# Altium integrated library AD DSP 32-Bit.IntLib: 40 symbols (part 3 of 6)
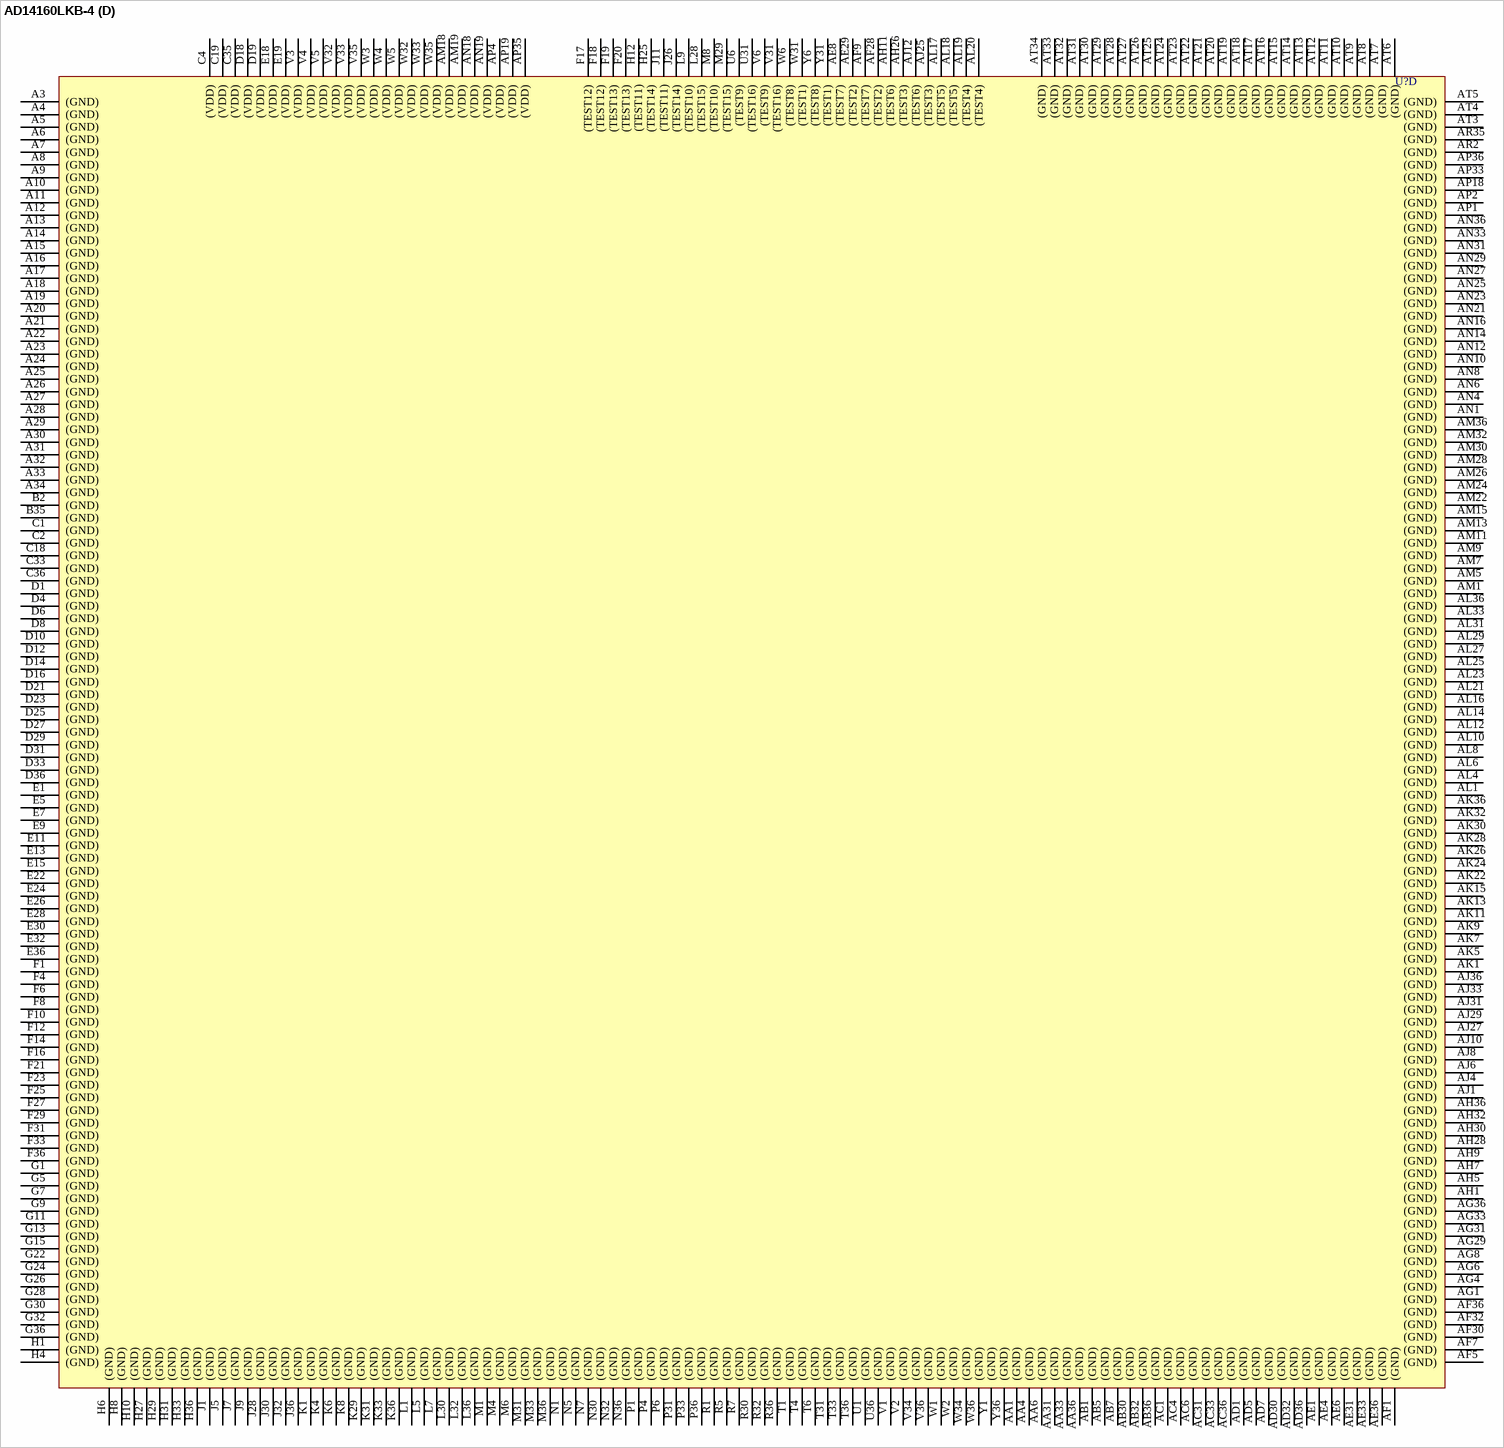
[diagram p44: symbol AD14160LKB-4]

## AD14160LKB-4
designator U?
480-MFLOP, Quad DSP, 3.3V; Note: All pins in parentheses are redundant; these pins are extraneous and only the redundant (GND) and (VDD) should be connected if desired. There are 1284 pins in total.; Published: 24-Aug-2001; LatestRevisionDate: 13-Apr-2006; LatestRevisionNote: IPC-7351 Footprint Added.; DatasheetVersion: 1998; PackageReference: QS-452; Publisher: Altium Limited; PackageDescription: 1285-Ball Ceramic Ball Grid Array 1.27 mm Pitch; ComponentLink1Description: Manufacturer Link; ComponentLink1URL: http://www.analog.com/
footprint QS-452 (BGA, 1285-Leads, Body 46.99x46.99mm, Pitch 1.27mm)
3D model 14160L-QS452 (1285-Ball Ceramic Ball Grid Array 1.27 mm Pitch)
part A pins: A1 INDEX, AA8 ~{HBR} (in), AA9 ~{BR}2 (io), AA10 ~{CPAB} (io), AA11 DATA44 (io), AA12 DATA42 (io), AA13 DATA40 (io), AA24 ADDR8 (io), AA25 ADDR9 (io), AA26 ADDR10 (io), AA27 ADDR11 (io), AA28 FLAGD1 (io), AA29 IRQD1 (in), AB8 ~{HBG} (io), AB9 ~{BR}3 (io), AB11 RFSC1 (io), AB12 RFSC0 (io), AB13 TDOB (out), AB24 ADDR4 (io), AB25 ADDR5 (io), AB26 ADDR6 (io), AB27 ADDR7 (io), AB28 FLAGD2 (io), AB29 IRQD2 (in), AC9 ~{BR}4 (io), AC10 FLAGC0 (io), AC11 RCLKC1 (io), AC12 RCLKC0 (io), AC13 ADRCLK (hiz), AC23 TIMEXPC (out), AC24 ADDR0 (io), AC25 ADDR1 (io), AC26 ADDR2 (io), AC27 ADDR3 (io), AC28 FLAGD3 (io), AD9 ~{BR}5 (io), AD10 FLAGC1 (io), AD11 DRC1 (in), AD12 DRC0 (in), AD13 ~{CPAC} (io), AD14 ~{CSC} (in), AD15 ~{EMU} (out), AD17 TMS (in), AD18 ~{TRST} (in), AD19 RFSD1 (io), AD20 RFSD0 (io), AD21 ~{BMSBCD} (io), AD22 LD1ACK (io), AD23 LD1CLK (io), AD24 LD1DAT0 (io), AD25 LD1DAT1 (io), AD26 LD1DAT2 (io), AD27 LD1DAT3 (io), AD28 TIMEXPD (out), AE9 ~{BR}6 (io), AE10 FLAGC2 (io), AE11 TFSC1 (io), AE12 TFSC0 (io), AE13 LC1ACK (io), AE14 LC1CLK (io), AE15 LC1DAT0 (io), AE16 LC1DAT1 (io), AE17 LC1DAT2 (io), AE18 LC1DAT3 (io), AE19 RCLKD1 (io), AE20 RCLKD0 (io), AE21 ~{WR} (io), AE22 LD2ACK (io), AE23 LD2CLK (io), AE24 LD2DAT0 (io), AE25 LD2DAT1 (io), AE26 LD2DAT2 (io), AE27 LD2DAT3 (io), AF10 FLAGC3 (io), AF11 TCLKC1 (io), AF12 TCLKC0 (io), AF13 LC2ACK (io), AF14 LC2CLK (io), AF15 LC2DAT0 (io), AF16 LC2DAT1 (io), AF17 LC2DAT2 (io), AF18 LC2DAT3 (io), AF19 DRD1 (in), AF20 DRD0 (in), AF21 ~{RD} (io), AF22 LD3ACK (io), AF23 LD3CLK (io), AF24 LD3DAT0 (io), AF25 LD3DAT1 (io), AF26 LD3DAT2 (io), AF27 LD3DAT3 (io), AG11 DTC1 (hiz), AG12 DTC0 (hiz), AG13 IRQC0 (in), AG14 IRQC1 (in), AG15 IRQC2 (in), AG16 IDC0 (in), AG17 IDC1 (in), AG18 IDC2 (in), AG19 TFSD1 (io), AG20 TFSD0 (io), AG21 ~{CSD} (in), AG22 LD4ACK (io), AG23 LD4CLK (io), AG24 LD4DAT0 (io), AG25 LD4DAT1 (io), AG26 LD4DAT2 (io), AG27 LD4DAT3 (io), AH13 LC3ACK (io), AH14 LC3CLK (io), AH15 LC3DAT0 (io), AH16 LC3DAT1 (io), AH17 LC3DAT2 (io), AH18 LC3DAT3 (io), AH19 TCLKD1 (io), AH20 TCLKD0 (io), AH21 IDD0 (in), AH22 IDD1 (in), AH23 IDD2 (in), AH24 EBOOTBCD (in), AH25 TDOC (out), AJ13 LC4ACK (io), AJ14 LC4CLK (io), AJ15 LC4DAT0 (io), AJ16 LC4DAT1 (io), AJ17 LC4DAT2 (io), AJ18 LC4DAT3 (io), AJ19 DTD1 (hiz), AJ20 DTD0 (hiz), AJ21 ~{CPAD} (io), AJ22 TDO (out), AJ23 LBOOTBCD (in), AJ24 TCK (in), G17 LB1DAT2 (io), G18 LB1DAT3 (io), G19 RFSA1 (io), G20 RFSA0 (io), H13 LB1ACK (io), H14 LB1CLK (io), H15 LB1DAT0 (io), H16 LB1DAT1 (io), H17 LB2DAT2 (io), H18 LB2DAT3 (io), H19 RCLKA1 (io), H20 RCLKA0 (io), H21 REDY (out), J12 DATA10 (io), J13 LB2ACK (io), J14 LB2CLK (io), J15 LB2DAT0 (io), J16 LB2DAT1 (io), J19 DRA1 (in), J20 DRA0 (in), J21 ACK (io), J22 PAGE (hiz), K11 DATA21 (io), K12 DATA11 (io), K13 LB3ACK (io), K14 LB3CLK (io), K15 LB3DAT0 (io), K16 LB3DAT1 (io), K17 LB3DAT2 (io), K18 LB3DAT3 (io), K19 TFSA1 (io), K20 TFSA0 (io), K21 ~{CSA} (in), K22 LA1ACK (io), K23 LA1CLK (io), K24 LA1DAT0 (io), K25 LA1DAT1 (io), K26 LA1DAT2 (io), K27 LA1DAT3 (io), L10 DATA30 (io), L11 DATA22 (io), L12 DATA12 (io), L13 LB4ACK (io), L14 LB4CLK (io), L15 LB4DAT0 (io), L16 LB4DAT1 (io), L17 LB4DAT2 (io), L18 LB4DAT3 (io), L19 TCLKA1 (io), L20 TCLKA0 (io), L21 ~{RESET} (in), L22 LA2ACK (io), L23 LA2CLK (io), L24 LA2DAT0 (io), L25 LA2DAT1 (io), L26 LA2DAT2 (io), L27 LA2DAT3 (io), M9 RFSB0 (io), M10 DATA31 (io), M11 DATA23 (io), M12 DATA13 (io), M13 DATA2 (io), M14 DATA0 (io), M15 ~{DMAG}1 (hiz), M16 ~{DMAR}1 (in), M17 ~{DMAR}2 (in), M19 DTA1 (hiz), M20 DTA0 (hiz), M21 ~{CPAA} (io), M22 LA3ACK (io), M23 LA3CLK (io), M24 LA3DAT0 (io), M25 LA3DAT1 (io), M26 LA3DAT2 (io), M27 LA3DAT3 (io), N9 RCLKB0 (io), N10 DATA32 (io), N11 DATA24 (io), N12 DATA14 (io), N13 DATA3 (io), N14 DATA1 (io), N15 ~{DMAG}2 (hiz), N16 ~{SBTS} (in), N22 LA4ACK (io), N23 LA4CLK (io), N24 LA4DAT0 (io), N25 LA4DAT1 (io), N26 LA4DAT2 (io), N27 LA4DAT3 (io), P8 RFSB1 (io), P9 DRB0 (in), P10 DATA33 (io), P11 DATA25 (io), P12 DATA15 (io), P13 DATA4 (io), P16 IDB0 (in), P17 IDB1 (in), P18 IDB2 (in), P28 IDA1 (in), P29 IDA2 (in), R8 RCLKB1 (io), R9 TFSB0 (io), R10 DATA34 (io), R11 DATA26 (io), R12 DATA16 (io), R13 DATA5 (io), R17 IRQB0 (in), R18 IRQB1 (in), R19 IRQB2 (in), R23 RPBA (in), R24 MS0 (io), R25 MS1 (io), R26 MS2 (io), R27 MS3 (io), R28 IDA0 (in), R29 LBOOTA (in), T8 DRB1 (in), T9 TCLKB0 (io), T10 DATA35 (io), T11 DATA27 (io), T12 DATA17 (io), T13 DATA6 (io), T24 ADDR28 (io), T25 ADDR29 (io), T26 ADDR30 (io), T27 ADDR31 (io), T28 IRQA0 (in), T29 EBOOTA (in), U8 TFSB1 (io), U9 DTB0 (hiz), U10 DATA36 (io), U11 CLKIN (in), U12 DATA18 (io), U13 DATA7 (io), U16 TIMEXPB (out), U24 ADDR24 (io), U25 ADDR25 (io), U26 ADDR26 (io), U27 ADDR27 (io), U28 IRQA2 (in), U29 IRQA1 (in), U30 TDOA (out), V7 ~{CSB} (in), V8 TCLKB1 (io), V9 DATA45 (io), V10 DATA37 (io), V11 DATA28 (io), V12 DATA19 (io), V13 DATA8 (io), V14 FLAGB0 (io), V15 FLAGB1 (io), V16 FLAGB2 (io), V17 FLAGB3 (io), V22 ~{BMSA} (io), V24 ADDR20 (io), V25 ADDR21 (io), V26 ADDR22 (io), V27 ADDR23 (io), V28 FLAGA0 (io), V29 FLAGA1 (io), V30 TIMEXPA (out), W8 DTB1 (hiz), W9 DATA46 (io), W10 DATA38 (io), W11 DATA29 (io), W12 DATA20 (io), W13 DATA9 (io), W24 ADDR16 (io), W25 ADDR17 (io), W26 ADDR18 (io), W27 ADDR19 (io), W28 FLAGA3 (io), W29 FLAGA2 (io), W30 TDI (in), Y8 ~{SW} (io), Y9 ~{BR}1 (io), Y10 DATA47 (io), Y11 DATA43 (io), Y12 DATA41 (io), Y13 DATA39 (io), Y24 ADDR12 (io), Y25 ADDR13 (io), Y26 ADDR14 (io), Y27 ADDR15 (io), Y28 FLAGD0 (io), Y29 IRQD0 (in)
part B pins: AA7 GND (power), AA16 GND (power), AA17 GND (power), AA18 GND (power), AA19 GND (power), AA20 GND (power), AA21 VDD (power), AA22 VDD (power), AA23 GND (power), AA30 VDD (power), AB10 GND (power), AB16 GND (power), AB17 GND (power), AB18 GND (power), AB19 GND (power), AB20 VDD (power), AB21 VDD (power), AB22 VDD (power), AB23 VDD (power), AC8 GND (power), AC14 VDD (power), AC15 VDD (power), AC16 VDD (power), AC17 VDD (power), AC18 GND (power), AC19 GND (power), AC20 GND (power), AC21 VDD (power), AC22 VDD (power), AC29 VDD (power), AD8 VDD (power), AD16 GND (power), AD29 GND (power), AE28 VDD (power), AG10 GND (power), AH12 VDD (power), AK16 GND (power), AK17 VDD (power), AK18 GND (power), AK19 VDD (power), AK20 VDD (power), AK21 GND (power), G16 GND (power), G21 VDD (power), H22 VDD (power), H23 GND (power), H24 VDD (power), J17 GND (power), J18 VDD (power), J23 GND (power), J24 VDD (power), J25 GND (power), K10 GND (power), M18 VDD (power), M28 VDD (power), N8 VDD (power), N28 GND (power), N29 VDD (power), P14 GND (power), P15 GND (power), P22 GND (power), P23 GND (power), P24 GND (power), P25 GND (power), P26 GND (power), P27 GND (power), R14 GND (power), R15 GND (power), R16 GND (power), R20 GND (power), R21 GND (power), R22 GND (power), T7 VDD (power), T14 VDD (power), T15 GND (power), T16 GND (power), T17 GND (power), T18 GND (power), T19 GND (power), T30 GND (power), U7 GND (power), U14 VDD (power), U15 GND (power), U17 VDD (power), U18 VDD (power), U19 VDD (power), U20 VDD (power), U21 VDD (power), U22 GND (power), U23 GND (power), V18 VDD (power), V19 VDD (power), V20 GND (power), V21 VDD (power), V23 GND (power), W7 GND (power), W16 GND (power), W17 VDD (power), W18 VDD (power), W19 VDD (power), W20 GND (power), W21 VDD (power), W22 VDD (power), W23 GND (power), Y7 VDD (power), Y16 GND (power), Y17 GND (power), Y18 VDD (power), Y19 VDD (power), Y20 VDD (power), Y21 VDD (power), Y22 GND (power), Y23 GND (power), Y30 GND (power)
part C pins: AA2 NC, AA3 NC, AA5 NC, AA14 NC, AA15 NC, AA32 NC, AA34 NC, AA35 NC, AB2 NC, AB3 NC, AB4 NC, AB6 NC, AB14 NC, AB15 NC, AB31 NC, AB33 NC, AB34 NC, AB35 NC, AC2 NC, AC3 NC, AC5 NC, AC7 NC, AC30 NC, AC32 NC, AC34 NC, AC35 NC, AD2 NC, AD3 NC, AD4 NC, AD6 NC, AD31 NC, AD33 NC, AD34 NC, AD35 NC, AE2 NC, AE3 NC, AE5 NC, AE7 NC, AE30 NC, AE32 NC, AE34 NC, AE35 NC, AF2 NC, AF3 NC, AF4 NC, AF6 NC, AF8 NC, AF29 NC, AF31 NC, AF33 NC, AF34 NC, AF35 NC, AG2 NC, AG3 NC, AG5 NC, AG7 NC, AG9 NC, AG28 NC, AG30 NC, AG32 NC, AG34 NC, AG35 NC, AH2 NC, AH3 NC, AH4 NC, AH6 NC, AH8 NC, AH10 NC, AH27 NC, AH29 NC, AH31 NC, AH33 NC, AH34 NC, AH35 NC, AJ2 NC, AJ3 NC, AJ5 NC, AJ7 NC, AJ9 NC, AJ11 NC, AJ26 NC, AJ28 NC, AJ30 NC, AJ32 NC, AJ34 NC, AJ35 NC, AK2 NC, AK3 NC, AK4 NC, AK6 NC, AK8 NC, AK10 NC, AK12 NC, AK14 NC, AK23 NC, AK25 NC, AK27 NC, AK29 NC, AK31 NC, AK33 NC, AK34 NC, AK35 NC, AL2 NC, AL3 NC, AL5 NC, AL7 NC, AL9 NC, AL11 NC, AL13 NC, AL15 NC, AL22 NC, AL24 NC, AL26 NC, AL28 NC, AL30 NC, AL32 NC, AL34 NC, AL35 NC, AM2 NC, AM3 NC, AM4 NC, AM6 NC, AM8 NC, AM10 NC, AM12 NC, AM14 NC, AM16 NC, AM17 NC, AM20 NC, AM21 NC, AM23 NC, AM25 NC, AM27 NC, AM29 NC, AM31 NC, AM33 NC, AM34 NC, AM35 NC, AN2 NC, AN3 NC, AN5 NC, AN7 NC, AN9 NC, AN11 NC, AN13 NC, AN15 NC, AN17 NC, AN20 NC, AN22 NC, AN24 NC, AN26 NC, AN28 NC, AN30 NC, AN32 NC, AN34 NC, AN35 NC, AP3 NC, AP5 NC, AP6 NC, AP7 NC, AP8 NC, AP9 NC, AP10 NC, AP11 NC, AP12 NC, AP13 NC, AP14 NC, AP15 NC, AP16 NC, AP17 NC, AP20 NC, AP21 NC, AP22 NC, AP23 NC, AP24 NC, AP25 NC, AP26 NC, AP27 NC, AP28 NC, AP29 NC, AP30 NC, AP31 NC, AP32 NC, AP34 NC, AR3 NC, AR4 NC, AR5 NC, AR6 NC, AR7 NC, AR8 NC, AR9 NC, AR10 NC, AR11 NC, AR12 NC, AR13 NC, AR14 NC, AR15 NC, AR16 NC, AR17 NC, AR18 NC, AR19 NC, AR20 NC, AR21 NC, AR22 NC, AR23 NC, AR24 NC, AR25 NC, AR26 NC, AR27 NC, AR28 NC, AR29 NC, AR30 NC, AR31 NC, AR32 NC, AR33 NC, AR34 NC, B3 NC, B4 NC, B5 NC, B6 NC, B7 NC, B8 NC, B9 NC, B10 NC, B11 NC, B12 NC, B13 NC, B14 NC, B15 NC, B16 NC, B17 NC, B18 NC, B19 NC, B20 NC, B21 NC, B22 NC, B23 NC, B24 NC, B25 NC, B26 NC, B27 NC, B28 NC, B29 NC, B30 NC, B31 NC, B32 NC, B33 NC, B34 NC, C3 NC, C5 NC, C6 NC, C7 NC, C8 NC, C9 NC, C10 NC, C11 NC, C12 NC, C13 NC, C14 NC, C15 NC, C16 NC, C17 NC, C20 NC, C21 NC, C22 NC, C23 NC, C24 NC, C25 NC, C26 NC, C27 NC, C28 NC, C29 NC, C30 NC, C31 NC, C32 NC, C34 NC, D2 NC, D3 NC, D5 NC, D7 NC, D9 NC, D11 NC, D13 NC, D15 NC, D17 NC, D20 NC, D22 NC, D24 NC, D26 NC, D28 NC, D30 NC, D32 NC, D34 NC, D35 NC, E2 NC, E3 NC, E4 NC, E6 NC, E8 NC, E10 NC, E12 NC, E14 NC, E16 NC, E17 NC, E20 NC, E21 NC, E23 NC, E25 NC, E27 NC, E29 NC, E31 NC, E33 NC, E34 NC, E35 NC, F2 NC, F3 NC, F5 NC, F7 NC, F9 NC, F11 NC, F13 NC, F15 NC, F22 NC, F24 NC, F26 NC, F28 NC, F30 NC, F32 NC, F34 NC, F35 NC, G2 NC, G3 NC, G4 NC, G6 NC, G8 NC, G10 NC, G12 NC, G14 NC, G23 NC, G25 NC, G27 NC, G29 NC, G31 NC, G33 NC, G34 NC, G35 NC, H2 NC, H3 NC, H5 NC, H7 NC, H9 NC, H11 NC, H26 NC, H28 NC, H30 NC, H32 NC, H34 NC, H35 NC, J2 NC, J3 NC, J4 NC, J6 NC, J8 NC, J10 NC, J27 NC, J29 NC, J31 NC, J33 NC, J34 NC, J35 NC, K2 NC, K3 NC, K5 NC, K7 NC, K9 NC, K28 NC, K30 NC, K32 NC, K34 NC, K35 NC, L2 NC, L3 NC, L4 NC, L6 NC, L8 NC, L29 NC, L31 NC, L33 NC, L34 NC, L35 NC, M2 NC, M3 NC, M5 NC, M7 NC, M30 NC, M32 NC, M34 NC, M35 NC, N2 NC, N3 NC, N4 NC, N6 NC, N17 NC, N18 NC, N19 NC, N20 NC, N21 NC, N31 NC, N33 NC, N34 NC, N35 NC, P2 NC, P3 NC, P5 NC, P7 NC, P19 NC, P20 NC, P21 NC, P30 NC, P32 NC, P34 NC, P35 NC, R2 NC, R3 NC, R4 NC, R6 NC, R31 NC, R33 NC, R34 NC, R35 NC, T2 NC, T3 NC, T5 NC, T20 NC, T21 NC, T22 NC, T23 NC, T32 NC, T34 NC, T35 NC, U2 NC, U3 NC, U4 NC, U5 NC, U32 NC, U33 NC, U34 NC, U35 NC, W14 NC, W15 NC, Y2 NC, Y3 NC, Y4 NC, Y5 NC, Y14 NC, Y15 NC, Y32 NC, Y33 NC, Y34 NC, Y35 NC
part D pins: A3 (GND) (power), A4 (GND) (power), A5 (GND) (power), A6 (GND) (power), A7 (GND) (power), A8 (GND) (power), A9 (GND) (power), A10 (GND) (power), A11 (GND) (power), A12 (GND) (power), A13 (GND) (power), A14 (GND) (power), A15 (GND) (power), A16 (GND) (power), A17 (GND) (power), A18 (GND) (power), A19 (GND) (power), A20 (GND) (power), A21 (GND) (power), A22 (GND) (power), A23 (GND) (power), A24 (GND) (power), A25 (GND) (power), A26 (GND) (power), A27 (GND) (power), A28 (GND) (power), A29 (GND) (power), A30 (GND) (power), A31 (GND) (power), A32 (GND) (power), A33 (GND) (power), A34 (GND) (power), AA1 (GND) (power), AA4 (GND) (power), AA6 (GND) (power), AA31 (GND) (power), AA33 (GND) (power), AA36 (GND) (power), AB1 (GND) (power), AB5 (GND) (power), AB7 (GND) (power), AB30 (GND) (power), AB32 (GND) (power), AB36 (GND) (power), AC1 (GND) (power), AC4 (GND) (power), AC6 (GND) (power), AC31 (GND) (power), AC33 (GND) (power), AC36 (GND) (power), AD1 (GND) (power), AD5 (GND) (power), AD7 (GND) (power), AD30 (GND) (power), AD32 (GND) (power), AD36 (GND) (power), AE1 (GND) (power), AE4 (GND) (power), AE6 (GND) (power), AE8 (TEST7), AE29 (TEST2), AE31 (GND) (power), AE33 (GND) (power), AE36 (GND) (power), AF1 (GND) (power), AF5 (GND) (power), AF7 (GND) (power), AF9 (TEST7), AF28 (TEST2), AF30 (GND) (power), AF32 (GND) (power), AF36 (GND) (power), AG1 (GND) (power), AG4 (GND) (power), AG6 (GND) (power), AG8 (GND) (power), AG29 (GND) (power), AG31 (GND) (power), AG33 (GND) (power), AG36 (GND) (power), AH1 (GND) (power), AH5 (GND) (power), AH7 (GND) (power), AH9 (GND) (power), AH11 (TEST6), AH26 (TEST3), AH28 (GND) (power), AH30 (GND) (power), AH32 (GND) (power), AH36 (GND) (power), AJ1 (GND) (power), AJ4 (GND) (power), AJ6 (GND) (power), AJ8 (GND) (power), AJ10 (GND) (power), AJ12 (TEST6), AJ25 (TEST3), AJ27 (GND) (power), AJ29 (GND) (power), AJ31 (GND) (power), AJ33 (GND) (power), AJ36 (GND) (power), AK1 (GND) (power), AK5 (GND) (power), AK7 (GND) (power), AK9 (GND) (power), AK11 (GND) (power), AK13 (GND) (power), AK15 (GND) (power), AK22 (GND) (power), AK24 (GND) (power), AK26 (GND) (power), AK28 (GND) (power), AK30 (GND) (power), AK32 (GND) (power), AK36 (GND) (power), AL1 (GND) (power), AL4 (GND) (power), AL6 (GND) (power), AL8 (GND) (power), AL10 (GND) (power), AL12 (GND) (power), AL14 (GND) (power), AL16 (GND) (power), AL17 (TEST5), AL18 (TEST5), AL19 (TEST4), AL20 (TEST4), AL21 (GND) (power), AL23 (GND) (power), AL25 (GND) (power), AL27 (GND) (power), AL29 (GND) (power), AL31 (GND) (power), AL33 (GND) (power), AL36 (GND) (power), AM1 (GND) (power), AM5 (GND) (power), AM7 (GND) (power), AM9 (GND) (power), AM11 (GND) (power), AM13 (GND) (power), AM15 (GND) (power), AM18 (VDD) (power), AM19 (VDD) (power), AM22 (GND) (power), AM24 (GND) (power), AM26 (GND) (power), AM28 (GND) (power), AM30 (GND) (power), AM32 (GND) (power), AM36 (GND) (power), AN1 (GND) (power), AN4 (GND) (power), AN6 (GND) (power), AN8 (GND) (power), AN10 (GND) (power), AN12 (GND) (power), AN14 (GND) (power), AN16 (GND) (power), AN18 (VDD) (power), AN19 (VDD) (power), AN21 (GND) (power), AN23 (GND) (power), AN25 (GND) (power), AN27 (GND) (power), AN29 (GND) (power), AN31 (GND) (power), AN33 (GND) (power), AN36 (GND) (power), AP1 (GND) (power), AP2 (GND) (power), AP4 (VDD) (power), AP18 (GND) (power), AP19 (VDD) (power), AP33 (GND) (power), AP35 (VDD) (power), AP36 (GND) (power), AR2 (GND) (power), AR35 (GND) (power), AT3 (GND) (power), AT4 (GND) (power), AT5 (GND) (power), AT6 (GND) (power), AT7 (GND) (power), AT8 (GND) (power), AT9 (GND) (power), AT10 (GND) (power), AT11 (GND) (power), AT12 (GND) (power), AT13 (GND) (power), AT14 (GND) (power), AT15 (GND) (power), AT16 (GND) (power), AT17 (GND) (power), AT18 (GND) (power), AT19 (GND) (power), AT20 (GND) (power), AT21 (GND) (power), AT22 (GND) (power), AT23 (GND) (power), AT24 (GND) (power), AT25 (GND) (power), AT26 (GND) (power), AT27 (GND) (power), AT28 (GND) (power), AT29 (GND) (power), AT30 (GND) (power), AT31 (GND) (power), AT32 (GND) (power), AT33 (GND) (power), AT34 (GND) (power), B2 (GND) (power), B35 (GND) (power), C1 (GND) (power), C2 (GND) (power), C4 (VDD) (power), C18 (GND) (power), C19 (VDD) (power), C33 (GND) (power), C35 (VDD) (power), C36 (GND) (power), D1 (GND) (power), D4 (GND) (power), D6 (GND) (power), D8 (GND) (power), D10 (GND) (power), D12 (GND) (power), D14 (GND) (power), D16 (GND) (power), D18 (VDD) (power), D19 (VDD) (power), D21 (GND) (power), D23 (GND) (power), D25 (GND) (power), D27 (GND) (power), D29 (GND) (power), D31 (GND) (power), D33 (GND) (power), D36 (GND) (power), E1 (GND) (power), E5 (GND) (power), E7 (GND) (power), E9 (GND) (power), E11 (GND) (power), E13 (GND) (power), E15 (GND) (power), E18 (VDD) (power), E19 (VDD) (power), E22 (GND) (power), E24 (GND) (power), E26 (GND) (power), E28 (GND) (power), E30 (GND) (power), E32 (GND) (power), E36 (GND) (power), F1 (GND) (power), F4 (GND) (power), F6 (GND) (power), F8 (GND) (power), F10 (GND) (power), F12 (GND) (power), F14 (GND) (power), F16 (GND) (power), F17 (TEST12), F18 (TEST12), F19 (TEST13), F20 (TEST13), F21 (GND) (power), F23 (GND) (power), F25 (GND) (power), F27 (GND) (power), F29 (GND) (power), F31 (GND) (power), F33 (GND) (power), F36 (GND) (power), G1 (GND) (power), G5 (GND) (power), G7 (GND) (power), G9 (GND) (power), G11 (GND) (power), G13 (GND) (power), G15 (GND) (power), G22 (GND) (power), G24 (GND) (power), G26 (GND) (power), G28 (GND) (power), G30 (GND) (power), G32 (GND) (power), G36 (GND) (power), H1 (GND) (power), H4 (GND) (power), H6 (GND) (power), H8 (GND) (power), H10 (GND) (power), H12 (TEST11), H25 (TEST14), H27 (GND) (power), H29 (GND) (power), H31 (GND) (power), H33 (GND) (power), H36 (GND) (power), J1 (GND) (power), J5 (GND) (power), J7 (GND) (power), J9 (GND) (power), J11 (TEST11), J26 (TEST14), J28 (GND) (power), J30 (GND) (power), J32 (GND) (power), J36 (GND) (power), K1 (GND) (power), K4 (GND) (power), K6 (GND) (power), K8 (GND) (power), K29 (GND) (power), K31 (GND) (power), K33 (GND) (power), K36 (GND) (power), L1 (GND) (power), L5 (GND) (power), L7 (GND) (power), L9 (TEST10), L28 (TEST15), L30 (GND) (power), L32 (GND) (power), L36 (GND) (power), M1 (GND) (power), M4 (GND) (power), M6 (GND) (power), M8 (TEST10), M29 (TEST15), M31 (GND) (power), M33 (GND) (power), M36 (GND) (power), N1 (GND) (power), N5 (GND) (power), N7 (GND) (power), N30 (GND) (power), N32 (GND) (power), N36 (GND) (power), P1 (GND) (power), P4 (GND) (power), P6 (GND) (power), P31 (GND) (power), P33 (GND) (power), P36 (GND) (power), R1 (GND) (power), R5 (GND) (power), R7 (GND) (power), R30 (GND) (power), R32 (GND) (power), R36 (GND) (power), T1 (GND) (power), T4 (GND) (power), T6 (GND) (power), T31 (GND) (power), T33 (GND) (power), T36 (GND) (power), U1 (GND) (power), U6 (TEST9), U31 (TEST16), U36 (GND) (power), V1 (GND) (power), V2 (GND) (power), V3 (VDD) (power), V4 (VDD) (power), V5 (VDD) (power), V6 (TEST9), V31 (TEST16), V32 (VDD) (power), V33 (VDD) (power), V34 (GND) (power), V35 (VDD) (power), V36 (GND) (power), W1 (GND) (power), W2 (GND) (power), W3 (VDD) (power), W4 (VDD) (power), W5 (VDD) (power), W6 (TEST8), W31 (TEST1), W32 (VDD) (power), W33 (VDD) (power), W34 (GND) (power), W35 (VDD) (power), W36 (GND) (power), Y1 (GND) (power), Y6 (TEST8), Y31 (TEST1), Y36 (GND) (power)

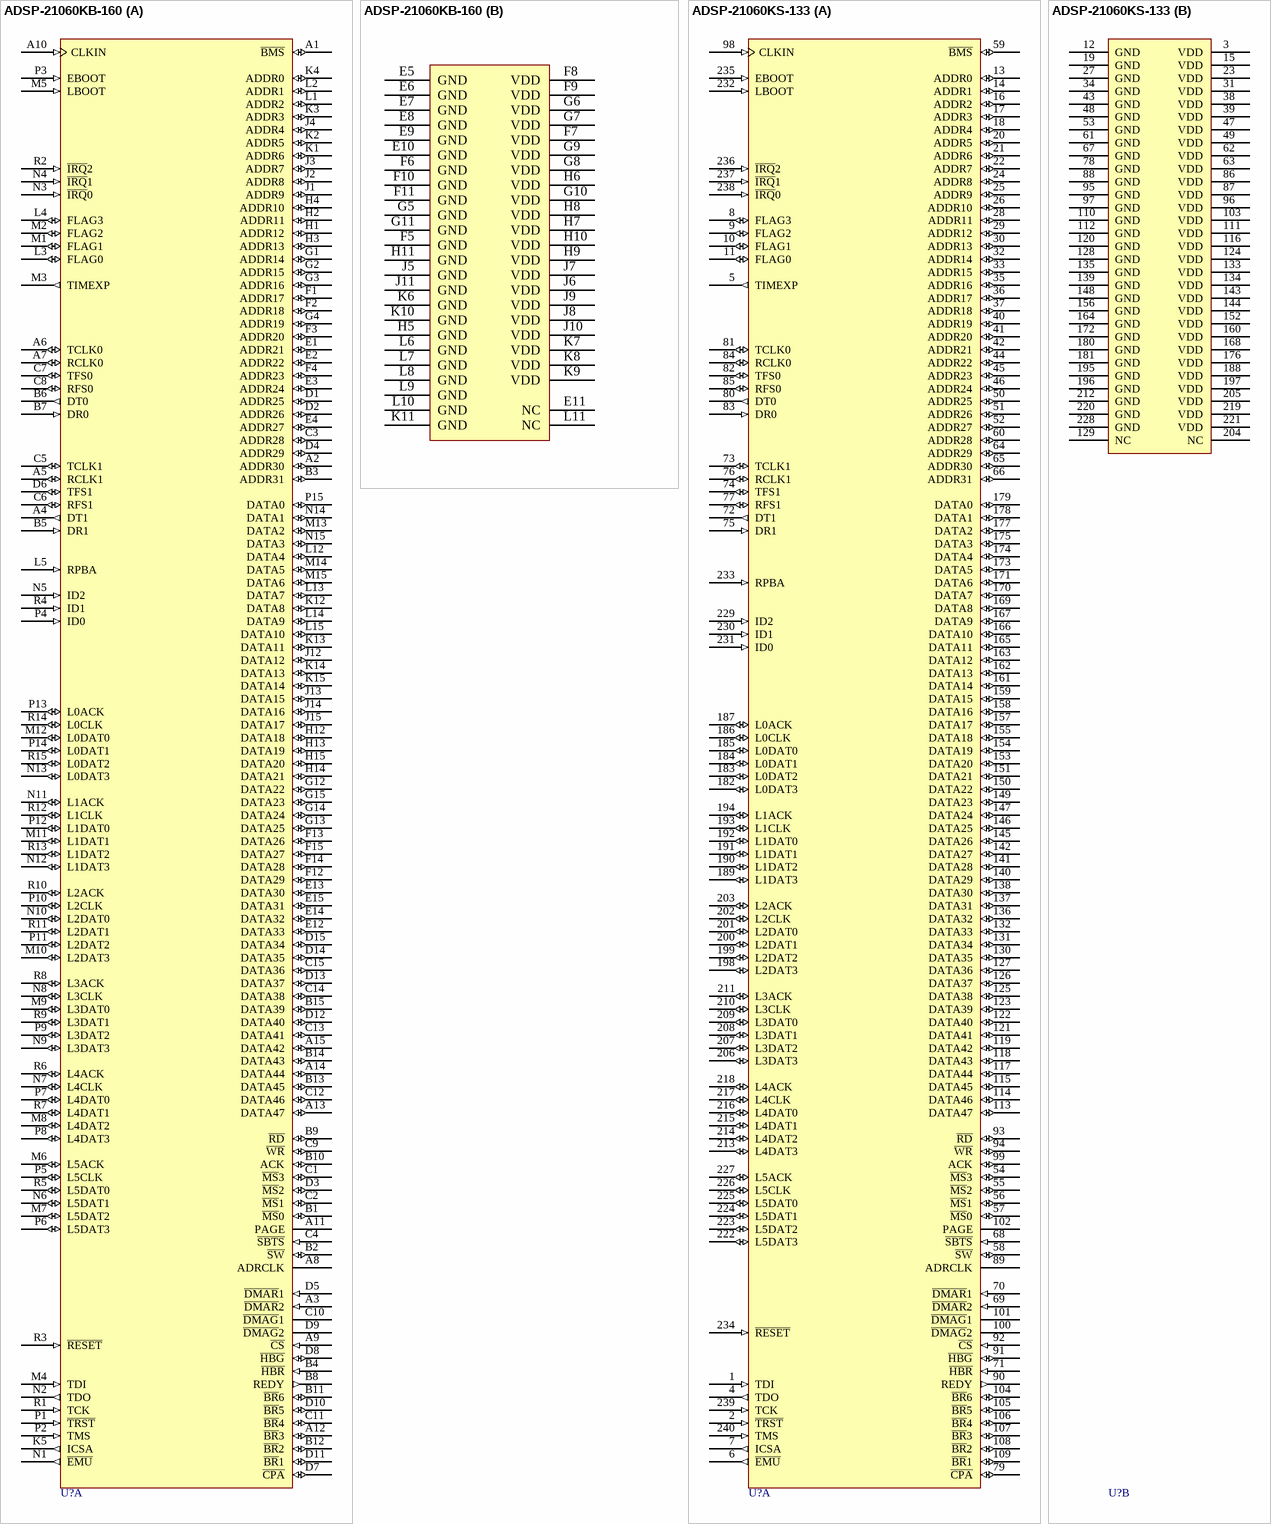
[diagram p24: symbols ADSP-21060KB-160 to ADSP-21060KS-133]

## ADSP-21060KB-160
designator U?
SHARC, 120 MFLOPS, 5V, DSP Microcomputer Floating Point; Published: 24-Aug-2001; LatestRevisionDate: 13-Apr-2006; LatestRevisionNote: IPC-7351 Footprint Added.; DatasheetVersion: 2000; PackageVersion: revB; PackageReference: B225; Publisher: Altium Limited; PackageDescription: 225-Ball Ball Grid Array 1.27 mm Pitch; ComponentLink1Description: Manufacturer Link; ComponentLink1URL: http://www.analog.com/
footprint B225 (BGA, 225-Leads, Body 23x23mm, Pitch 1.27mm)
3D model 21060-B225 (225-Ball Ball Grid Array 1.27 mm Pitch)
part A pins: A1 ~{BMS} (io), A2 ADDR30 (io), A3 ~{DMAR}2 (in), A4 DT1 (out), A5 RCLK1 (io), A6 TCLK0 (io), A7 RCLK0 (io), A8 ADRCLK (hiz), A9 ~{CS} (in), A10 CLKIN (in), A11 PAGE (hiz), A12 ~{BR}3 (io), A13 DATA47 (io), A14 DATA44 (io), A15 DATA42 (io), B1 ~{MS}0 (io), B2 ~{SW} (io), B3 ADDR31 (io), B4 ~{HBR} (in), B5 DR1 (in), B6 DT0 (out), B7 DR0 (in), B8 REDY (out), B9 ~{RD} (io), B10 ACK (io), B11 ~{BR}6 (io), B12 ~{BR}2 (io), B13 DATA45 (io), B14 DATA43 (io), B15 DATA39 (io), C1 ~{MS}3 (io), C2 ~{MS}1 (io), C3 ADDR28 (io), C4 ~{SBTS} (in), C5 TCLK1 (io), C6 RFS1 (io), C7 TFS0 (io), C8 RFS0 (io), C9 ~{WR} (io), C10 ~{DMAG}1 (hiz), C11 ~{BR}4 (io), C12 DATA46 (io), C13 DATA41 (io), C14 DATA38 (io), C15 DATA36 (io), D1 ADDR25 (io), D2 ADDR26 (io), D3 ~{MS}2 (io), D4 ADDR29 (io), D5 ~{DMAR}1 (in), D6 TFS1 (io), D7 ~{CPA} (io), D8 ~{HBG} (io), D9 ~{DMAG}2 (hiz), D10 ~{BR}5 (io), D11 ~{BR}1 (io), D12 DATA40 (io), D13 DATA37 (io), D14 DATA35 (io), D15 DATA34 (io), E1 ADDR21 (io), E2 ADDR22 (io), E3 ADDR24 (io), E4 ADDR27 (io), E12 DATA33 (io), E13 DATA30 (io), E14 DATA32 (io), E15 DATA31 (io), F1 ADDR17 (io), F2 ADDR18 (io), F3 ADDR20 (io), F4 ADDR23 (io), F12 DATA29 (io), F13 DATA26 (io), F14 DATA28 (io), F15 DATA27 (io), G1 ADDR14 (io), G2 ADDR15 (io), G3 ADDR16 (io), G4 ADDR19 (io), G12 DATA22 (io), G13 DATA25 (io), G14 DATA24 (io), G15 DATA23 (io), H1 ADDR12 (io), H2 ADDR11 (io), H3 ADDR13 (io), H4 ADDR10 (io), H12 DATA18 (io), H13 DATA19 (io), H14 DATA21 (io), H15 DATA20 (io), J1 ADDR9 (io), J2 ADDR8 (io), J3 ADDR7 (io), J4 ADDR4 (io), J12 DATA12 (io), J13 DATA15 (io), J14 DATA16 (io), J15 DATA17 (io), K1 ADDR6 (io), K2 ADDR5 (io), K3 ADDR3 (io), K4 ADDR0 (io), K5 ICSA (out), K12 DATA8 (io), K13 DATA11 (io), K14 DATA13 (io), K15 DATA14 (io), L1 ADDR2 (io), L2 ADDR1 (io), L3 FLAG0 (io), L4 FLAG3 (io), L5 RPBA (in), L12 DATA4 (io), L13 DATA7 (io), L14 DATA9 (io), L15 DATA10 (io), M1 FLAG1 (io), M2 FLAG2 (io), M3 TIMEXP (out), M4 TDI (in), M5 LBOOT (in), M6 L5ACK (io), M7 L5DAT2 (io), M8 L4DAT2 (io), M9 L3DAT0 (io), M10 L2DAT3 (io), M11 L1DAT1 (io), M12 L0DAT0 (io), M13 DATA2 (io), M14 DATA5 (io), M15 DATA6 (io), N1 ~{EMU} (out), N2 TDO (out), N3 ~{IRQ}0 (in), N4 ~{IRQ}1 (in), N5 ID2 (in), N6 L5DAT1 (io), N7 L4CLK (io), N8 L3CLK (io), N9 L3DAT3 (io), N10 L2DAT0 (io), N11 L1ACK (io), N12 L1DAT3 (io), N13 L0DAT3 (io), N14 DATA1 (io), N15 DATA3 (io), P1 ~{TRST} (in), P2 TMS (in), P3 EBOOT (in), P4 ID0 (in), P5 L5CLK (io), P6 L5DAT3 (io), P7 L4DAT0 (io), P8 L4DAT3 (io), P9 L3DAT2 (io), P10 L2CLK (io), P11 L2DAT2 (io), P12 L1DAT0 (io), P13 L0ACK (io), P14 L0DAT1 (io), P15 DATA0 (io), R1 TCK (in), R2 ~{IRQ}2 (in), R3 ~{RESET} (in), R4 ID1 (in), R5 L5DAT0 (io), R6 L4ACK (io), R7 L4DAT1 (io), R8 L3ACK (io), R9 L3DAT1 (io), R10 L2ACK (io), R11 L2DAT1 (io), R12 L1CLK (io), R13 L1DAT2 (io), R14 L0CLK (io), R15 L0DAT2 (io)
part B pins: E5 GND (power), E6 GND (power), E7 GND (power), E8 GND (power), E9 GND (power), E10 GND (power), E11 NC, F5 GND (power), F6 GND (power), F7 VDD (power), F8 VDD (power), F9 VDD (power), F10 GND (power), F11 GND (power), G5 GND (power), G6 VDD (power), G7 VDD (power), G8 VDD (power), G9 VDD (power), G10 VDD (power), G11 GND (power), H5 GND (power), H6 VDD (power), H7 VDD (power), H8 VDD (power), H9 VDD (power), H10 VDD (power), H11 GND (power), J5 GND (power), J6 VDD (power), J7 VDD (power), J8 VDD (power), J9 VDD (power), J10 VDD (power), J11 GND (power), K6 GND (power), K7 VDD (power), K8 VDD (power), K9 VDD (power), K10 GND (power), K11 GND (power), L6 GND (power), L7 GND (power), L8 GND (power), L9 GND (power), L10 GND (power), L11 NC

## ADSP-21060KS-133
designator U?
SHARC, 120 MFLOPS, 5V, DSP Microcomputer Floating Point; PackageFeature: Thermally Enhanced MQFP includes heat slug on its top surface; Published: 24-Aug-2001; LatestRevisionDate: 13-Apr-2006; LatestRevisionNote: IPC-7351 Footprint Added.; DatasheetVersion: 2000; PackageVersion: 2000; PackageReference: MQFP240-5V; Publisher: Altium Limited; PackageDescription: 240-Pin Shrink Quad Flat Pack 0.5 mm Pitch; ComponentLink1Description: Manufacturer Link; ComponentLink1URL: http://www.analog.com/
footprint MQFP240-5V_N (Shrink QFP, 240-Leads, Body 32x32mm, Pitch 0.5mm, IPC Medium Density)
footprint MQFP240-5V_L (Shrink QFP, 240-Leads, Body 32x32mm, Pitch 0.5mm, IPC High Density)
footprint MQFP240-5V_M (Shrink QFP, 240-Leads, Body 32x32mm, Pitch 0.5mm, IPC Low Density)
3D model 21060-MQFP240 (240-Pin Shrink Quad Flat Pack 0.5 mm Pitch)
part A pins: 1 TDI (in), 2 ~{TRST} (in), 4 TDO (out), 5 TIMEXP (out), 6 ~{EMU} (out), 7 ICSA (out), 8 FLAG3 (io), 9 FLAG2 (io), 10 FLAG1 (io), 11 FLAG0 (io), 13 ADDR0 (io), 14 ADDR1 (io), 16 ADDR2 (io), 17 ADDR3 (io), 18 ADDR4 (io), 20 ADDR5 (io), 21 ADDR6 (io), 22 ADDR7 (io), 24 ADDR8 (io), 25 ADDR9 (io), 26 ADDR10 (io), 28 ADDR11 (io), 29 ADDR12 (io), 30 ADDR13 (io), 32 ADDR14 (io), 33 ADDR15 (io), 35 ADDR16 (io), 36 ADDR17 (io), 37 ADDR18 (io), 40 ADDR19 (io), 41 ADDR20 (io), 42 ADDR21 (io), 44 ADDR22 (io), 45 ADDR23 (io), 46 ADDR24 (io), 50 ADDR25 (io), 51 ADDR26 (io), 52 ADDR27 (io), 54 ~{MS}3 (io), 55 ~{MS}2 (io), 56 ~{MS}1 (io), 57 ~{MS}0 (io), 58 ~{SW} (io), 59 ~{BMS} (io), 60 ADDR28 (io), 64 ADDR29 (io), 65 ADDR30 (io), 66 ADDR31 (io), 68 ~{SBTS} (in), 69 ~{DMAR}2 (in), 70 ~{DMAR}1 (in), 71 ~{HBR} (in), 72 DT1 (out), 73 TCLK1 (io), 74 TFS1 (io), 75 DR1 (in), 76 RCLK1 (io), 77 RFS1 (io), 79 ~{CPA} (io), 80 DT0 (out), 81 TCLK0 (io), 82 TFS0 (io), 83 DR0 (in), 84 RCLK0 (io), 85 RFS0 (io), 89 ADRCLK (hiz), 90 REDY (out), 91 ~{HBG} (io), 92 ~{CS} (in), 93 ~{RD} (io), 94 ~{WR} (io), 98 CLKIN (in), 99 ACK (io), 100 ~{DMAG}2 (hiz), 101 ~{DMAG}1 (hiz), 102 PAGE (hiz), 104 ~{BR}6 (io), 105 ~{BR}5 (io), 106 ~{BR}4 (io), 107 ~{BR}3 (io), 108 ~{BR}2 (io), 109 ~{BR}1 (io), 113 DATA47 (io), 114 DATA46 (io), 115 DATA45 (io), 117 DATA44 (io), 118 DATA43 (io), 119 DATA42 (io), 121 DATA41 (io), 122 DATA40 (io), 123 DATA39 (io), 125 DATA38 (io), 126 DATA37 (io), 127 DATA36 (io), 130 DATA35 (io), 131 DATA34 (io), 132 DATA33 (io), 136 DATA32 (io), 137 DATA31 (io), 138 DATA30 (io), 140 DATA29 (io), 141 DATA28 (io), 142 DATA27 (io), 145 DATA26 (io), 146 DATA25 (io), 147 DATA24 (io), 149 DATA23 (io), 150 DATA22 (io), 151 DATA21 (io), 153 DATA20 (io), 154 DATA19 (io), 155 DATA18 (io), 157 DATA17 (io), 158 DATA16 (io), 159 DATA15 (io), 161 DATA14 (io), 162 DATA13 (io), 163 DATA12 (io), 165 DATA11 (io), 166 DATA10 (io), 167 DATA9 (io), 169 DATA8 (io), 170 DATA7 (io), 171 DATA6 (io), 173 DATA5 (io), 174 DATA4 (io), 175 DATA3 (io), 177 DATA2 (io), 178 DATA1 (io), 179 DATA0 (io), 182 L0DAT3 (io), 183 L0DAT2 (io), 184 L0DAT1 (io), 185 L0DAT0 (io), 186 L0CLK (io), 187 L0ACK (io), 189 L1DAT3 (io), 190 L1DAT2 (io), 191 L1DAT1 (io), 192 L1DAT0 (io), 193 L1CLK (io), 194 L1ACK (io), 198 L2DAT3 (io), 199 L2DAT2 (io), 200 L2DAT1 (io), 201 L2DAT0 (io), 202 L2CLK (io), 203 L2ACK (io), 206 L3DAT3 (io), 207 L3DAT2 (io), 208 L3DAT1 (io), 209 L3DAT0 (io), 210 L3CLK (io), 211 L3ACK (io), 213 L4DAT3 (io), 214 L4DAT2 (io), 215 L4DAT1 (io), 216 L4DAT0 (io), 217 L4CLK (io), 218 L4ACK (io), 222 L5DAT3 (io), 223 L5DAT2 (io), 224 L5DAT1 (io), 225 L5DAT0 (io), 226 L5CLK (io), 227 L5ACK (io), 229 ID2 (in), 230 ID1 (in), 231 ID0 (in), 232 LBOOT (in), 233 RPBA (in), 234 ~{RESET} (in), 235 EBOOT (in), 236 ~{IRQ}2 (in), 237 ~{IRQ}1 (in), 238 ~{IRQ}0 (in), 239 TCK (in), 240 TMS (in)
part B pins: 3 VDD (power), 12 GND (power), 15 VDD (power), 19 GND (power), 23 VDD (power), 27 GND (power), 31 VDD (power), 34 GND (power), 38 VDD (power), 39 VDD (power), 43 GND (power), 47 VDD (power), 48 GND (power), 49 VDD (power), 53 GND (power), 61 GND (power), 62 VDD (power), 63 VDD (power), 67 GND (power), 78 GND (power), 86 VDD (power), 87 VDD (power), 88 GND (power), 95 GND (power), 96 VDD (power), 97 GND (power), 103 VDD (power), 110 GND (power), 111 VDD (power), 112 GND (power), 116 VDD (power), 120 GND (power), 124 VDD (power), 128 GND (power), 129 NC, 133 VDD (power), 134 VDD (power), 135 GND (power), 139 GND (power), 143 VDD (power), 144 VDD (power), 148 GND (power), 152 VDD (power), 156 GND (power), 160 VDD (power), 164 GND (power), 168 VDD (power), 172 GND (power), 176 VDD (power), 180 GND (power), 181 GND (power), 188 VDD (power), 195 GND (power), 196 GND (power), 197 VDD (power), 204 NC, 205 VDD (power), 212 GND (power), 219 VDD (power), 220 GND (power), 221 VDD (power), 228 GND (power)

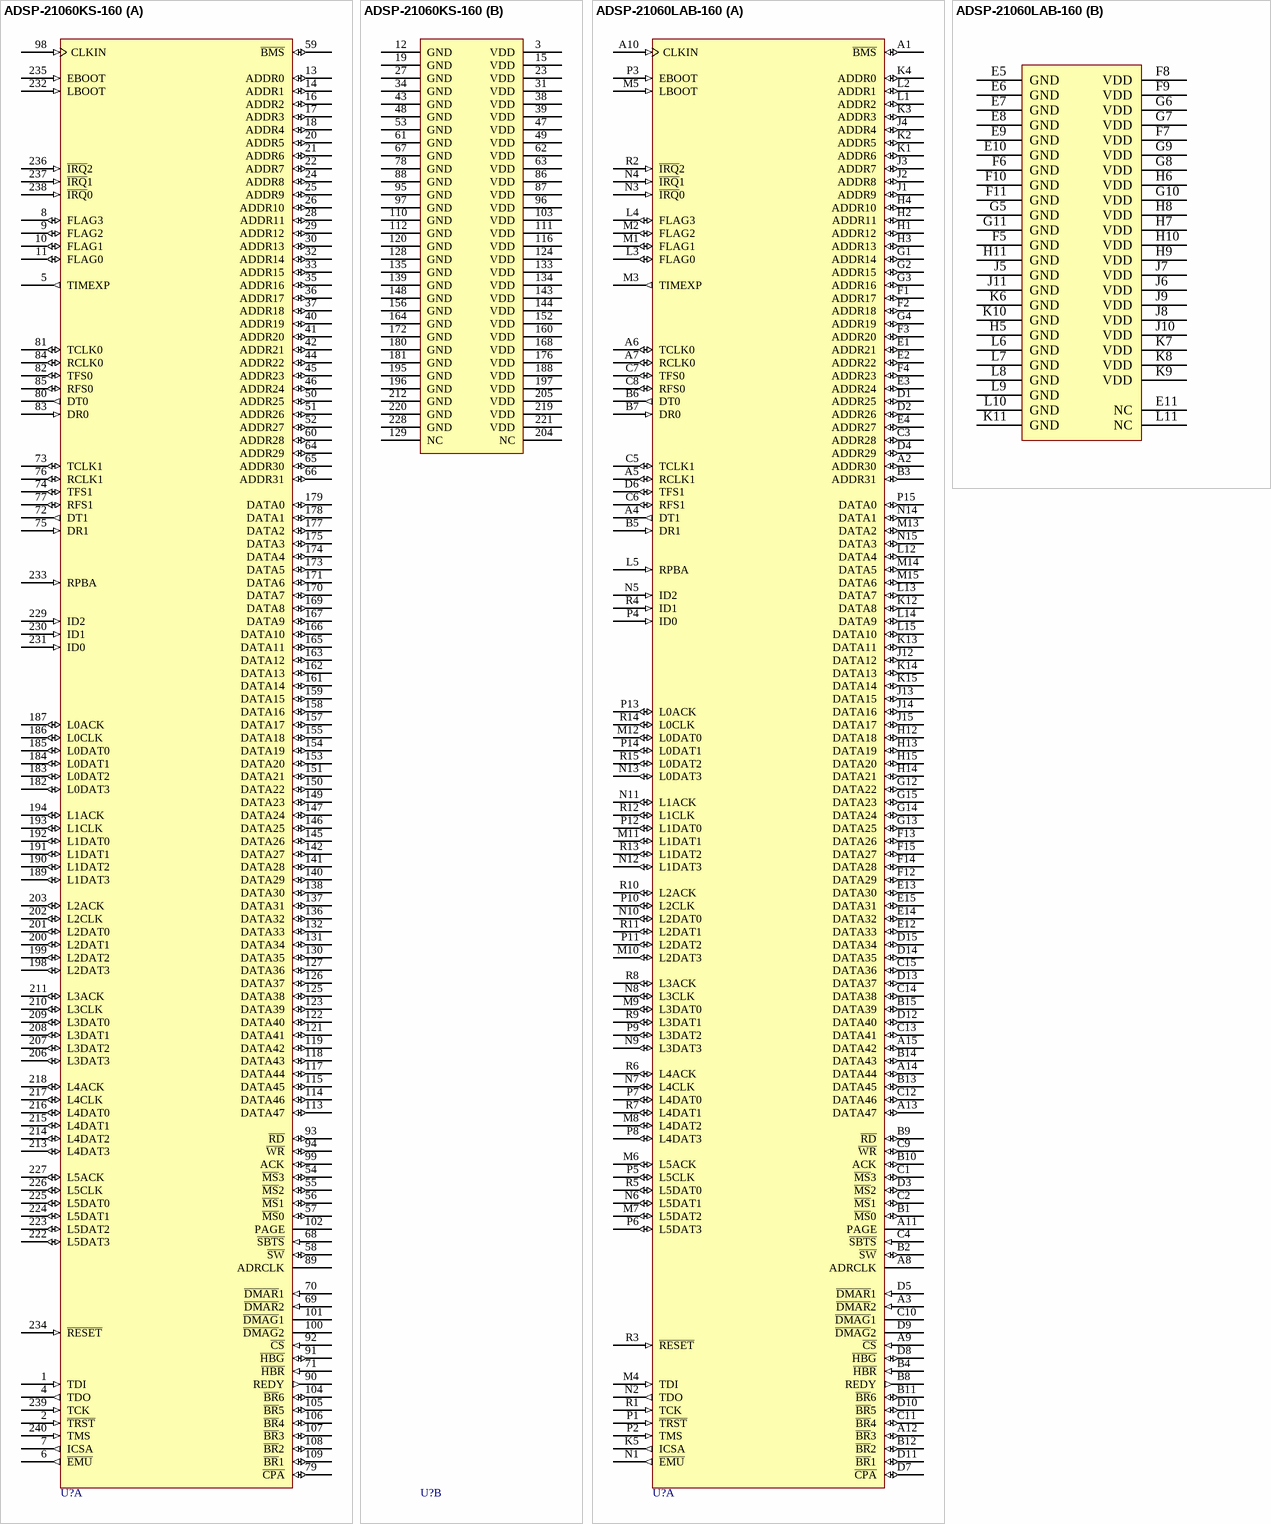
[diagram p25: symbols ADSP-21060KS-160 to ADSP-21060LAB-160]

## ADSP-21060KS-160
designator U?
SHARC, 120 MFLOPS, 5V, DSP Microcomputer Floating Point; PackageFeature: Thermally Enhanced MQFP includes heat slug on its top surface; Published: 24-Aug-2001; LatestRevisionDate: 13-Apr-2006; LatestRevisionNote: IPC-7351 Footprint Added.; DatasheetVersion: 2000; PackageVersion: 2000; PackageReference: MQFP240-5V; Publisher: Altium Limited; PackageDescription: 240-Pin Shrink Quad Flat Pack 0.5 mm Pitch; ComponentLink1Description: Manufacturer Link; ComponentLink1URL: http://www.analog.com/
footprint MQFP240-5V_N (Shrink QFP, 240-Leads, Body 32x32mm, Pitch 0.5mm, IPC Medium Density)
footprint MQFP240-5V_L (Shrink QFP, 240-Leads, Body 32x32mm, Pitch 0.5mm, IPC High Density)
footprint MQFP240-5V_M (Shrink QFP, 240-Leads, Body 32x32mm, Pitch 0.5mm, IPC Low Density)
3D model 21060-MQFP240 (240-Pin Shrink Quad Flat Pack 0.5 mm Pitch)
part A pins: 1 TDI (in), 2 ~{TRST} (in), 4 TDO (out), 5 TIMEXP (out), 6 ~{EMU} (out), 7 ICSA (out), 8 FLAG3 (io), 9 FLAG2 (io), 10 FLAG1 (io), 11 FLAG0 (io), 13 ADDR0 (io), 14 ADDR1 (io), 16 ADDR2 (io), 17 ADDR3 (io), 18 ADDR4 (io), 20 ADDR5 (io), 21 ADDR6 (io), 22 ADDR7 (io), 24 ADDR8 (io), 25 ADDR9 (io), 26 ADDR10 (io), 28 ADDR11 (io), 29 ADDR12 (io), 30 ADDR13 (io), 32 ADDR14 (io), 33 ADDR15 (io), 35 ADDR16 (io), 36 ADDR17 (io), 37 ADDR18 (io), 40 ADDR19 (io), 41 ADDR20 (io), 42 ADDR21 (io), 44 ADDR22 (io), 45 ADDR23 (io), 46 ADDR24 (io), 50 ADDR25 (io), 51 ADDR26 (io), 52 ADDR27 (io), 54 ~{MS}3 (io), 55 ~{MS}2 (io), 56 ~{MS}1 (io), 57 ~{MS}0 (io), 58 ~{SW} (io), 59 ~{BMS} (io), 60 ADDR28 (io), 64 ADDR29 (io), 65 ADDR30 (io), 66 ADDR31 (io), 68 ~{SBTS} (in), 69 ~{DMAR}2 (in), 70 ~{DMAR}1 (in), 71 ~{HBR} (in), 72 DT1 (out), 73 TCLK1 (io), 74 TFS1 (io), 75 DR1 (in), 76 RCLK1 (io), 77 RFS1 (io), 79 ~{CPA} (io), 80 DT0 (out), 81 TCLK0 (io), 82 TFS0 (io), 83 DR0 (in), 84 RCLK0 (io), 85 RFS0 (io), 89 ADRCLK (hiz), 90 REDY (out), 91 ~{HBG} (io), 92 ~{CS} (in), 93 ~{RD} (io), 94 ~{WR} (io), 98 CLKIN (in), 99 ACK (io), 100 ~{DMAG}2 (hiz), 101 ~{DMAG}1 (hiz), 102 PAGE (hiz), 104 ~{BR}6 (io), 105 ~{BR}5 (io), 106 ~{BR}4 (io), 107 ~{BR}3 (io), 108 ~{BR}2 (io), 109 ~{BR}1 (io), 113 DATA47 (io), 114 DATA46 (io), 115 DATA45 (io), 117 DATA44 (io), 118 DATA43 (io), 119 DATA42 (io), 121 DATA41 (io), 122 DATA40 (io), 123 DATA39 (io), 125 DATA38 (io), 126 DATA37 (io), 127 DATA36 (io), 130 DATA35 (io), 131 DATA34 (io), 132 DATA33 (io), 136 DATA32 (io), 137 DATA31 (io), 138 DATA30 (io), 140 DATA29 (io), 141 DATA28 (io), 142 DATA27 (io), 145 DATA26 (io), 146 DATA25 (io), 147 DATA24 (io), 149 DATA23 (io), 150 DATA22 (io), 151 DATA21 (io), 153 DATA20 (io), 154 DATA19 (io), 155 DATA18 (io), 157 DATA17 (io), 158 DATA16 (io), 159 DATA15 (io), 161 DATA14 (io), 162 DATA13 (io), 163 DATA12 (io), 165 DATA11 (io), 166 DATA10 (io), 167 DATA9 (io), 169 DATA8 (io), 170 DATA7 (io), 171 DATA6 (io), 173 DATA5 (io), 174 DATA4 (io), 175 DATA3 (io), 177 DATA2 (io), 178 DATA1 (io), 179 DATA0 (io), 182 L0DAT3 (io), 183 L0DAT2 (io), 184 L0DAT1 (io), 185 L0DAT0 (io), 186 L0CLK (io), 187 L0ACK (io), 189 L1DAT3 (io), 190 L1DAT2 (io), 191 L1DAT1 (io), 192 L1DAT0 (io), 193 L1CLK (io), 194 L1ACK (io), 198 L2DAT3 (io), 199 L2DAT2 (io), 200 L2DAT1 (io), 201 L2DAT0 (io), 202 L2CLK (io), 203 L2ACK (io), 206 L3DAT3 (io), 207 L3DAT2 (io), 208 L3DAT1 (io), 209 L3DAT0 (io), 210 L3CLK (io), 211 L3ACK (io), 213 L4DAT3 (io), 214 L4DAT2 (io), 215 L4DAT1 (io), 216 L4DAT0 (io), 217 L4CLK (io), 218 L4ACK (io), 222 L5DAT3 (io), 223 L5DAT2 (io), 224 L5DAT1 (io), 225 L5DAT0 (io), 226 L5CLK (io), 227 L5ACK (io), 229 ID2 (in), 230 ID1 (in), 231 ID0 (in), 232 LBOOT (in), 233 RPBA (in), 234 ~{RESET} (in), 235 EBOOT (in), 236 ~{IRQ}2 (in), 237 ~{IRQ}1 (in), 238 ~{IRQ}0 (in), 239 TCK (in), 240 TMS (in)
part B pins: 3 VDD (power), 12 GND (power), 15 VDD (power), 19 GND (power), 23 VDD (power), 27 GND (power), 31 VDD (power), 34 GND (power), 38 VDD (power), 39 VDD (power), 43 GND (power), 47 VDD (power), 48 GND (power), 49 VDD (power), 53 GND (power), 61 GND (power), 62 VDD (power), 63 VDD (power), 67 GND (power), 78 GND (power), 86 VDD (power), 87 VDD (power), 88 GND (power), 95 GND (power), 96 VDD (power), 97 GND (power), 103 VDD (power), 110 GND (power), 111 VDD (power), 112 GND (power), 116 VDD (power), 120 GND (power), 124 VDD (power), 128 GND (power), 129 NC, 133 VDD (power), 134 VDD (power), 135 GND (power), 139 GND (power), 143 VDD (power), 144 VDD (power), 148 GND (power), 152 VDD (power), 156 GND (power), 160 VDD (power), 164 GND (power), 168 VDD (power), 172 GND (power), 176 VDD (power), 180 GND (power), 181 GND (power), 188 VDD (power), 195 GND (power), 196 GND (power), 197 VDD (power), 204 NC, 205 VDD (power), 212 GND (power), 219 VDD (power), 220 GND (power), 221 VDD (power), 228 GND (power)

## ADSP-21060LAB-160
designator U?
SHARC, 120 MFLOPS, 3.3V, DSP Microcomputer Floating Point; Published: 24-Aug-2001; LatestRevisionDate: 13-Apr-2006; LatestRevisionNote: IPC-7351 Footprint Added.; DatasheetVersion: 2000; PackageVersion: revB; PackageReference: B225; Publisher: Altium Limited; PackageDescription: 225-Ball Ball Grid Array 1.27 mm Pitch; ComponentLink1Description: Manufacturer Link; ComponentLink1URL: http://www.analog.com/
footprint B225 (BGA, 225-Leads, Body 23x23mm, Pitch 1.27mm)
3D model 21060L-B225 (225-Ball Ball Grid Array 1.27 mm Pitch)
part A pins: A1 ~{BMS} (io), A2 ADDR30 (io), A3 ~{DMAR}2 (in), A4 DT1 (out), A5 RCLK1 (io), A6 TCLK0 (io), A7 RCLK0 (io), A8 ADRCLK (hiz), A9 ~{CS} (in), A10 CLKIN (in), A11 PAGE (hiz), A12 ~{BR}3 (io), A13 DATA47 (io), A14 DATA44 (io), A15 DATA42 (io), B1 ~{MS}0 (io), B2 ~{SW} (io), B3 ADDR31 (io), B4 ~{HBR} (in), B5 DR1 (in), B6 DT0 (out), B7 DR0 (in), B8 REDY (out), B9 ~{RD} (io), B10 ACK (io), B11 ~{BR}6 (io), B12 ~{BR}2 (io), B13 DATA45 (io), B14 DATA43 (io), B15 DATA39 (io), C1 ~{MS}3 (io), C2 ~{MS}1 (io), C3 ADDR28 (io), C4 ~{SBTS} (in), C5 TCLK1 (io), C6 RFS1 (io), C7 TFS0 (io), C8 RFS0 (io), C9 ~{WR} (io), C10 ~{DMAG}1 (hiz), C11 ~{BR}4 (io), C12 DATA46 (io), C13 DATA41 (io), C14 DATA38 (io), C15 DATA36 (io), D1 ADDR25 (io), D2 ADDR26 (io), D3 ~{MS}2 (io), D4 ADDR29 (io), D5 ~{DMAR}1 (in), D6 TFS1 (io), D7 ~{CPA} (io), D8 ~{HBG} (io), D9 ~{DMAG}2 (hiz), D10 ~{BR}5 (io), D11 ~{BR}1 (io), D12 DATA40 (io), D13 DATA37 (io), D14 DATA35 (io), D15 DATA34 (io), E1 ADDR21 (io), E2 ADDR22 (io), E3 ADDR24 (io), E4 ADDR27 (io), E12 DATA33 (io), E13 DATA30 (io), E14 DATA32 (io), E15 DATA31 (io), F1 ADDR17 (io), F2 ADDR18 (io), F3 ADDR20 (io), F4 ADDR23 (io), F12 DATA29 (io), F13 DATA26 (io), F14 DATA28 (io), F15 DATA27 (io), G1 ADDR14 (io), G2 ADDR15 (io), G3 ADDR16 (io), G4 ADDR19 (io), G12 DATA22 (io), G13 DATA25 (io), G14 DATA24 (io), G15 DATA23 (io), H1 ADDR12 (io), H2 ADDR11 (io), H3 ADDR13 (io), H4 ADDR10 (io), H12 DATA18 (io), H13 DATA19 (io), H14 DATA21 (io), H15 DATA20 (io), J1 ADDR9 (io), J2 ADDR8 (io), J3 ADDR7 (io), J4 ADDR4 (io), J12 DATA12 (io), J13 DATA15 (io), J14 DATA16 (io), J15 DATA17 (io), K1 ADDR6 (io), K2 ADDR5 (io), K3 ADDR3 (io), K4 ADDR0 (io), K5 ICSA (out), K12 DATA8 (io), K13 DATA11 (io), K14 DATA13 (io), K15 DATA14 (io), L1 ADDR2 (io), L2 ADDR1 (io), L3 FLAG0 (io), L4 FLAG3 (io), L5 RPBA (in), L12 DATA4 (io), L13 DATA7 (io), L14 DATA9 (io), L15 DATA10 (io), M1 FLAG1 (io), M2 FLAG2 (io), M3 TIMEXP (out), M4 TDI (in), M5 LBOOT (in), M6 L5ACK (io), M7 L5DAT2 (io), M8 L4DAT2 (io), M9 L3DAT0 (io), M10 L2DAT3 (io), M11 L1DAT1 (io), M12 L0DAT0 (io), M13 DATA2 (io), M14 DATA5 (io), M15 DATA6 (io), N1 ~{EMU} (out), N2 TDO (out), N3 ~{IRQ}0 (in), N4 ~{IRQ}1 (in), N5 ID2 (in), N6 L5DAT1 (io), N7 L4CLK (io), N8 L3CLK (io), N9 L3DAT3 (io), N10 L2DAT0 (io), N11 L1ACK (io), N12 L1DAT3 (io), N13 L0DAT3 (io), N14 DATA1 (io), N15 DATA3 (io), P1 ~{TRST} (in), P2 TMS (in), P3 EBOOT (in), P4 ID0 (in), P5 L5CLK (io), P6 L5DAT3 (io), P7 L4DAT0 (io), P8 L4DAT3 (io), P9 L3DAT2 (io), P10 L2CLK (io), P11 L2DAT2 (io), P12 L1DAT0 (io), P13 L0ACK (io), P14 L0DAT1 (io), P15 DATA0 (io), R1 TCK (in), R2 ~{IRQ}2 (in), R3 ~{RESET} (in), R4 ID1 (in), R5 L5DAT0 (io), R6 L4ACK (io), R7 L4DAT1 (io), R8 L3ACK (io), R9 L3DAT1 (io), R10 L2ACK (io), R11 L2DAT1 (io), R12 L1CLK (io), R13 L1DAT2 (io), R14 L0CLK (io), R15 L0DAT2 (io)
part B pins: E5 GND (power), E6 GND (power), E7 GND (power), E8 GND (power), E9 GND (power), E10 GND (power), E11 NC, F5 GND (power), F6 GND (power), F7 VDD (power), F8 VDD (power), F9 VDD (power), F10 GND (power), F11 GND (power), G5 GND (power), G6 VDD (power), G7 VDD (power), G8 VDD (power), G9 VDD (power), G10 VDD (power), G11 GND (power), H5 GND (power), H6 VDD (power), H7 VDD (power), H8 VDD (power), H9 VDD (power), H10 VDD (power), H11 GND (power), J5 GND (power), J6 VDD (power), J7 VDD (power), J8 VDD (power), J9 VDD (power), J10 VDD (power), J11 GND (power), K6 GND (power), K7 VDD (power), K8 VDD (power), K9 VDD (power), K10 GND (power), K11 GND (power), L6 GND (power), L7 GND (power), L8 GND (power), L9 GND (power), L10 GND (power), L11 NC

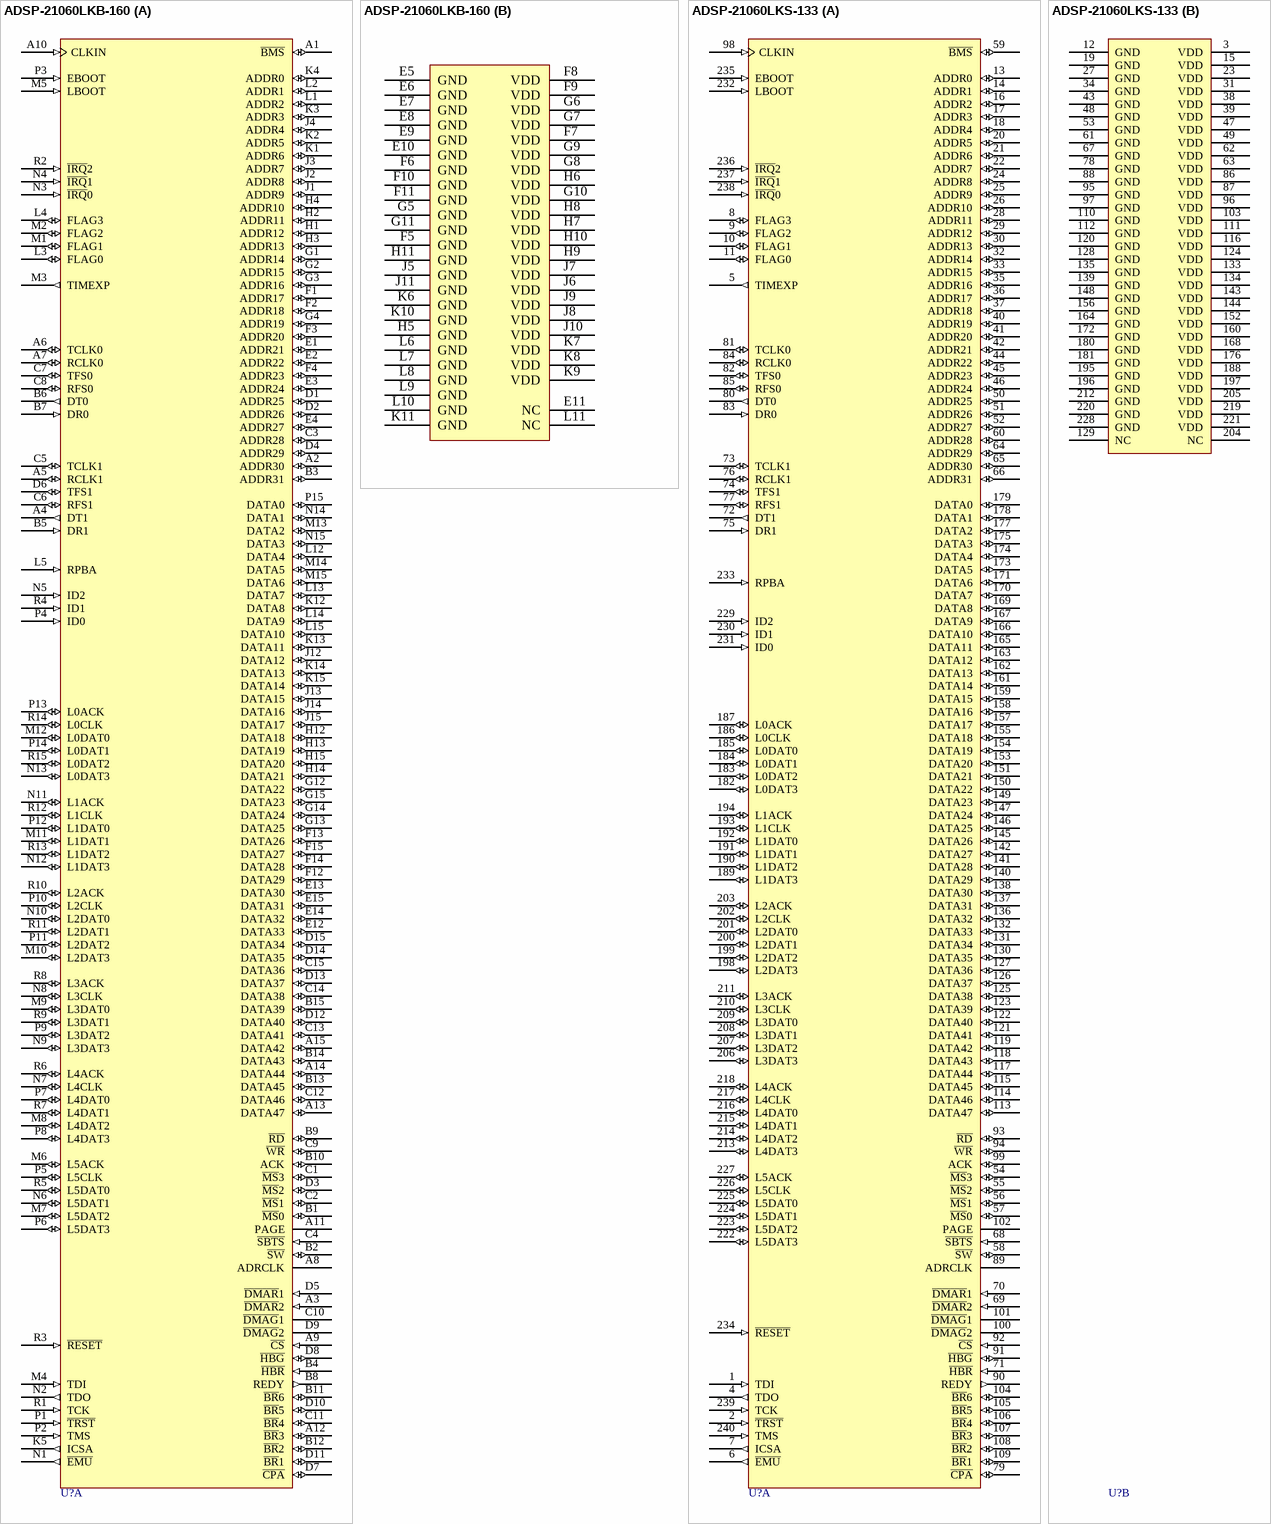
[diagram p26: symbols ADSP-21060LKB-160 to ADSP-21060LKS-133]

## ADSP-21060LKB-160
designator U?
SHARC, 120 MFLOPS, 3.3V, DSP Microcomputer Floating Point; Published: 24-Aug-2001; LatestRevisionDate: 13-Apr-2006; LatestRevisionNote: IPC-7351 Footprint Added.; DatasheetVersion: 2000; PackageVersion: revB; PackageReference: B225; Publisher: Altium Limited; PackageDescription: 225-Ball Ball Grid Array 1.27 mm Pitch; ComponentLink1Description: Manufacturer Link; ComponentLink1URL: http://www.analog.com/
footprint B225 (BGA, 225-Leads, Body 23x23mm, Pitch 1.27mm)
3D model 21060L-B225 (225-Ball Ball Grid Array 1.27 mm Pitch)
part A pins: A1 ~{BMS} (io), A2 ADDR30 (io), A3 ~{DMAR}2 (in), A4 DT1 (out), A5 RCLK1 (io), A6 TCLK0 (io), A7 RCLK0 (io), A8 ADRCLK (hiz), A9 ~{CS} (in), A10 CLKIN (in), A11 PAGE (hiz), A12 ~{BR}3 (io), A13 DATA47 (io), A14 DATA44 (io), A15 DATA42 (io), B1 ~{MS}0 (io), B2 ~{SW} (io), B3 ADDR31 (io), B4 ~{HBR} (in), B5 DR1 (in), B6 DT0 (out), B7 DR0 (in), B8 REDY (out), B9 ~{RD} (io), B10 ACK (io), B11 ~{BR}6 (io), B12 ~{BR}2 (io), B13 DATA45 (io), B14 DATA43 (io), B15 DATA39 (io), C1 ~{MS}3 (io), C2 ~{MS}1 (io), C3 ADDR28 (io), C4 ~{SBTS} (in), C5 TCLK1 (io), C6 RFS1 (io), C7 TFS0 (io), C8 RFS0 (io), C9 ~{WR} (io), C10 ~{DMAG}1 (hiz), C11 ~{BR}4 (io), C12 DATA46 (io), C13 DATA41 (io), C14 DATA38 (io), C15 DATA36 (io), D1 ADDR25 (io), D2 ADDR26 (io), D3 ~{MS}2 (io), D4 ADDR29 (io), D5 ~{DMAR}1 (in), D6 TFS1 (io), D7 ~{CPA} (io), D8 ~{HBG} (io), D9 ~{DMAG}2 (hiz), D10 ~{BR}5 (io), D11 ~{BR}1 (io), D12 DATA40 (io), D13 DATA37 (io), D14 DATA35 (io), D15 DATA34 (io), E1 ADDR21 (io), E2 ADDR22 (io), E3 ADDR24 (io), E4 ADDR27 (io), E12 DATA33 (io), E13 DATA30 (io), E14 DATA32 (io), E15 DATA31 (io), F1 ADDR17 (io), F2 ADDR18 (io), F3 ADDR20 (io), F4 ADDR23 (io), F12 DATA29 (io), F13 DATA26 (io), F14 DATA28 (io), F15 DATA27 (io), G1 ADDR14 (io), G2 ADDR15 (io), G3 ADDR16 (io), G4 ADDR19 (io), G12 DATA22 (io), G13 DATA25 (io), G14 DATA24 (io), G15 DATA23 (io), H1 ADDR12 (io), H2 ADDR11 (io), H3 ADDR13 (io), H4 ADDR10 (io), H12 DATA18 (io), H13 DATA19 (io), H14 DATA21 (io), H15 DATA20 (io), J1 ADDR9 (io), J2 ADDR8 (io), J3 ADDR7 (io), J4 ADDR4 (io), J12 DATA12 (io), J13 DATA15 (io), J14 DATA16 (io), J15 DATA17 (io), K1 ADDR6 (io), K2 ADDR5 (io), K3 ADDR3 (io), K4 ADDR0 (io), K5 ICSA (out), K12 DATA8 (io), K13 DATA11 (io), K14 DATA13 (io), K15 DATA14 (io), L1 ADDR2 (io), L2 ADDR1 (io), L3 FLAG0 (io), L4 FLAG3 (io), L5 RPBA (in), L12 DATA4 (io), L13 DATA7 (io), L14 DATA9 (io), L15 DATA10 (io), M1 FLAG1 (io), M2 FLAG2 (io), M3 TIMEXP (out), M4 TDI (in), M5 LBOOT (in), M6 L5ACK (io), M7 L5DAT2 (io), M8 L4DAT2 (io), M9 L3DAT0 (io), M10 L2DAT3 (io), M11 L1DAT1 (io), M12 L0DAT0 (io), M13 DATA2 (io), M14 DATA5 (io), M15 DATA6 (io), N1 ~{EMU} (out), N2 TDO (out), N3 ~{IRQ}0 (in), N4 ~{IRQ}1 (in), N5 ID2 (in), N6 L5DAT1 (io), N7 L4CLK (io), N8 L3CLK (io), N9 L3DAT3 (io), N10 L2DAT0 (io), N11 L1ACK (io), N12 L1DAT3 (io), N13 L0DAT3 (io), N14 DATA1 (io), N15 DATA3 (io), P1 ~{TRST} (in), P2 TMS (in), P3 EBOOT (in), P4 ID0 (in), P5 L5CLK (io), P6 L5DAT3 (io), P7 L4DAT0 (io), P8 L4DAT3 (io), P9 L3DAT2 (io), P10 L2CLK (io), P11 L2DAT2 (io), P12 L1DAT0 (io), P13 L0ACK (io), P14 L0DAT1 (io), P15 DATA0 (io), R1 TCK (in), R2 ~{IRQ}2 (in), R3 ~{RESET} (in), R4 ID1 (in), R5 L5DAT0 (io), R6 L4ACK (io), R7 L4DAT1 (io), R8 L3ACK (io), R9 L3DAT1 (io), R10 L2ACK (io), R11 L2DAT1 (io), R12 L1CLK (io), R13 L1DAT2 (io), R14 L0CLK (io), R15 L0DAT2 (io)
part B pins: E5 GND (power), E6 GND (power), E7 GND (power), E8 GND (power), E9 GND (power), E10 GND (power), E11 NC, F5 GND (power), F6 GND (power), F7 VDD (power), F8 VDD (power), F9 VDD (power), F10 GND (power), F11 GND (power), G5 GND (power), G6 VDD (power), G7 VDD (power), G8 VDD (power), G9 VDD (power), G10 VDD (power), G11 GND (power), H5 GND (power), H6 VDD (power), H7 VDD (power), H8 VDD (power), H9 VDD (power), H10 VDD (power), H11 GND (power), J5 GND (power), J6 VDD (power), J7 VDD (power), J8 VDD (power), J9 VDD (power), J10 VDD (power), J11 GND (power), K6 GND (power), K7 VDD (power), K8 VDD (power), K9 VDD (power), K10 GND (power), K11 GND (power), L6 GND (power), L7 GND (power), L8 GND (power), L9 GND (power), L10 GND (power), L11 NC

## ADSP-21060LKS-133
designator U?
SHARC, 120 MFLOPS, 3.3V, DSP Microcomputer Floating Point; Published: 24-Aug-2001; LatestRevisionDate: 13-Apr-2006; LatestRevisionNote: IPC-7351 Footprint Added.; DatasheetVersion: 2000; PackageVersion: 2000; PackageReference: MQFP240-3.3V; Publisher: Altium Limited; PackageDescription: 240-Pin Shrink Quad Flat Pack 0.5 mm Pitch; ComponentLink1Description: Manufacturer Link; ComponentLink1URL: http://www.analog.com/
footprint MQFP240-3.3V_N (Shrink QFP, 240-Leads, Body 32x32mm, Pitch 0.5mm, IPC Medium Density)
footprint MQFP240-3.3V_L (Shrink QFP, 240-Leads, Body 32x32mm, Pitch 0.5mm, IPC High Density)
footprint MQFP240-3.3V_M (Shrink QFP, 240-Leads, Body 32x32mm, Pitch 0.5mm, IPC Low Density)
3D model 21060L-MQFP240 (240-Pin Shrink Quad Flat Pack 0.5 mm Pitch)
part A pins: 1 TDI (in), 2 ~{TRST} (in), 4 TDO (out), 5 TIMEXP (out), 6 ~{EMU} (out), 7 ICSA (out), 8 FLAG3 (io), 9 FLAG2 (io), 10 FLAG1 (io), 11 FLAG0 (io), 13 ADDR0 (io), 14 ADDR1 (io), 16 ADDR2 (io), 17 ADDR3 (io), 18 ADDR4 (io), 20 ADDR5 (io), 21 ADDR6 (io), 22 ADDR7 (io), 24 ADDR8 (io), 25 ADDR9 (io), 26 ADDR10 (io), 28 ADDR11 (io), 29 ADDR12 (io), 30 ADDR13 (io), 32 ADDR14 (io), 33 ADDR15 (io), 35 ADDR16 (io), 36 ADDR17 (io), 37 ADDR18 (io), 40 ADDR19 (io), 41 ADDR20 (io), 42 ADDR21 (io), 44 ADDR22 (io), 45 ADDR23 (io), 46 ADDR24 (io), 50 ADDR25 (io), 51 ADDR26 (io), 52 ADDR27 (io), 54 ~{MS}3 (io), 55 ~{MS}2 (io), 56 ~{MS}1 (io), 57 ~{MS}0 (io), 58 ~{SW} (io), 59 ~{BMS} (io), 60 ADDR28 (io), 64 ADDR29 (io), 65 ADDR30 (io), 66 ADDR31 (io), 68 ~{SBTS} (in), 69 ~{DMAR}2 (in), 70 ~{DMAR}1 (in), 71 ~{HBR} (in), 72 DT1 (out), 73 TCLK1 (io), 74 TFS1 (io), 75 DR1 (in), 76 RCLK1 (io), 77 RFS1 (io), 79 ~{CPA} (io), 80 DT0 (out), 81 TCLK0 (io), 82 TFS0 (io), 83 DR0 (in), 84 RCLK0 (io), 85 RFS0 (io), 89 ADRCLK (hiz), 90 REDY (out), 91 ~{HBG} (io), 92 ~{CS} (in), 93 ~{RD} (io), 94 ~{WR} (io), 98 CLKIN (in), 99 ACK (io), 100 ~{DMAG}2 (hiz), 101 ~{DMAG}1 (hiz), 102 PAGE (hiz), 104 ~{BR}6 (io), 105 ~{BR}5 (io), 106 ~{BR}4 (io), 107 ~{BR}3 (io), 108 ~{BR}2 (io), 109 ~{BR}1 (io), 113 DATA47 (io), 114 DATA46 (io), 115 DATA45 (io), 117 DATA44 (io), 118 DATA43 (io), 119 DATA42 (io), 121 DATA41 (io), 122 DATA40 (io), 123 DATA39 (io), 125 DATA38 (io), 126 DATA37 (io), 127 DATA36 (io), 130 DATA35 (io), 131 DATA34 (io), 132 DATA33 (io), 136 DATA32 (io), 137 DATA31 (io), 138 DATA30 (io), 140 DATA29 (io), 141 DATA28 (io), 142 DATA27 (io), 145 DATA26 (io), 146 DATA25 (io), 147 DATA24 (io), 149 DATA23 (io), 150 DATA22 (io), 151 DATA21 (io), 153 DATA20 (io), 154 DATA19 (io), 155 DATA18 (io), 157 DATA17 (io), 158 DATA16 (io), 159 DATA15 (io), 161 DATA14 (io), 162 DATA13 (io), 163 DATA12 (io), 165 DATA11 (io), 166 DATA10 (io), 167 DATA9 (io), 169 DATA8 (io), 170 DATA7 (io), 171 DATA6 (io), 173 DATA5 (io), 174 DATA4 (io), 175 DATA3 (io), 177 DATA2 (io), 178 DATA1 (io), 179 DATA0 (io), 182 L0DAT3 (io), 183 L0DAT2 (io), 184 L0DAT1 (io), 185 L0DAT0 (io), 186 L0CLK (io), 187 L0ACK (io), 189 L1DAT3 (io), 190 L1DAT2 (io), 191 L1DAT1 (io), 192 L1DAT0 (io), 193 L1CLK (io), 194 L1ACK (io), 198 L2DAT3 (io), 199 L2DAT2 (io), 200 L2DAT1 (io), 201 L2DAT0 (io), 202 L2CLK (io), 203 L2ACK (io), 206 L3DAT3 (io), 207 L3DAT2 (io), 208 L3DAT1 (io), 209 L3DAT0 (io), 210 L3CLK (io), 211 L3ACK (io), 213 L4DAT3 (io), 214 L4DAT2 (io), 215 L4DAT1 (io), 216 L4DAT0 (io), 217 L4CLK (io), 218 L4ACK (io), 222 L5DAT3 (io), 223 L5DAT2 (io), 224 L5DAT1 (io), 225 L5DAT0 (io), 226 L5CLK (io), 227 L5ACK (io), 229 ID2 (in), 230 ID1 (in), 231 ID0 (in), 232 LBOOT (in), 233 RPBA (in), 234 ~{RESET} (in), 235 EBOOT (in), 236 ~{IRQ}2 (in), 237 ~{IRQ}1 (in), 238 ~{IRQ}0 (in), 239 TCK (in), 240 TMS (in)
part B pins: 3 VDD (power), 12 GND (power), 15 VDD (power), 19 GND (power), 23 VDD (power), 27 GND (power), 31 VDD (power), 34 GND (power), 38 VDD (power), 39 VDD (power), 43 GND (power), 47 VDD (power), 48 GND (power), 49 VDD (power), 53 GND (power), 61 GND (power), 62 VDD (power), 63 VDD (power), 67 GND (power), 78 GND (power), 86 VDD (power), 87 VDD (power), 88 GND (power), 95 GND (power), 96 VDD (power), 97 GND (power), 103 VDD (power), 110 GND (power), 111 VDD (power), 112 GND (power), 116 VDD (power), 120 GND (power), 124 VDD (power), 128 GND (power), 129 NC, 133 VDD (power), 134 VDD (power), 135 GND (power), 139 GND (power), 143 VDD (power), 144 VDD (power), 148 GND (power), 152 VDD (power), 156 GND (power), 160 VDD (power), 164 GND (power), 168 VDD (power), 172 GND (power), 176 VDD (power), 180 GND (power), 181 GND (power), 188 VDD (power), 195 GND (power), 196 GND (power), 197 VDD (power), 204 NC, 205 VDD (power), 212 GND (power), 219 VDD (power), 220 GND (power), 221 VDD (power), 228 GND (power)

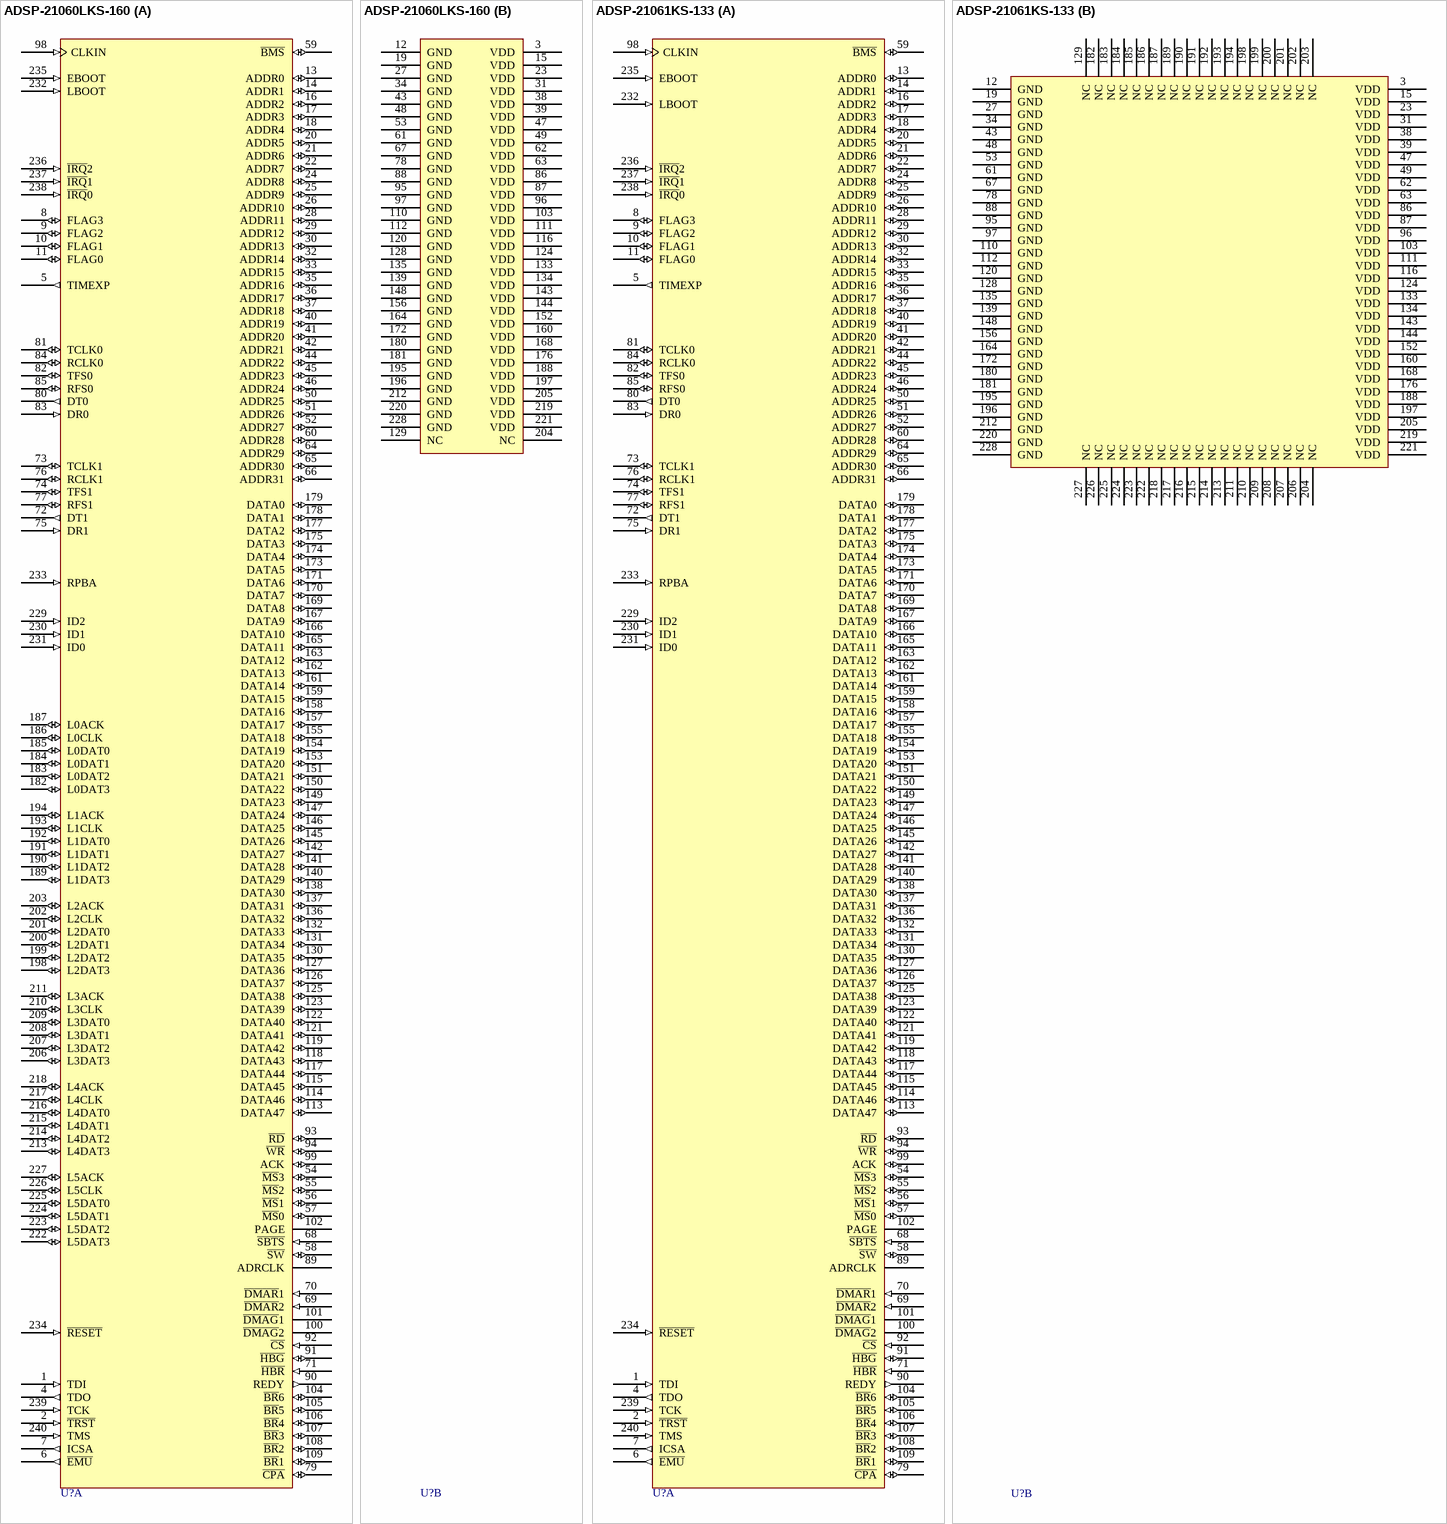
[diagram p27: symbols ADSP-21060LKS-160 to ADSP-21061KS-133]